# Altium integrated library Actel ProASIC3E.IntLib: 182 symbols (part 41 of 46)
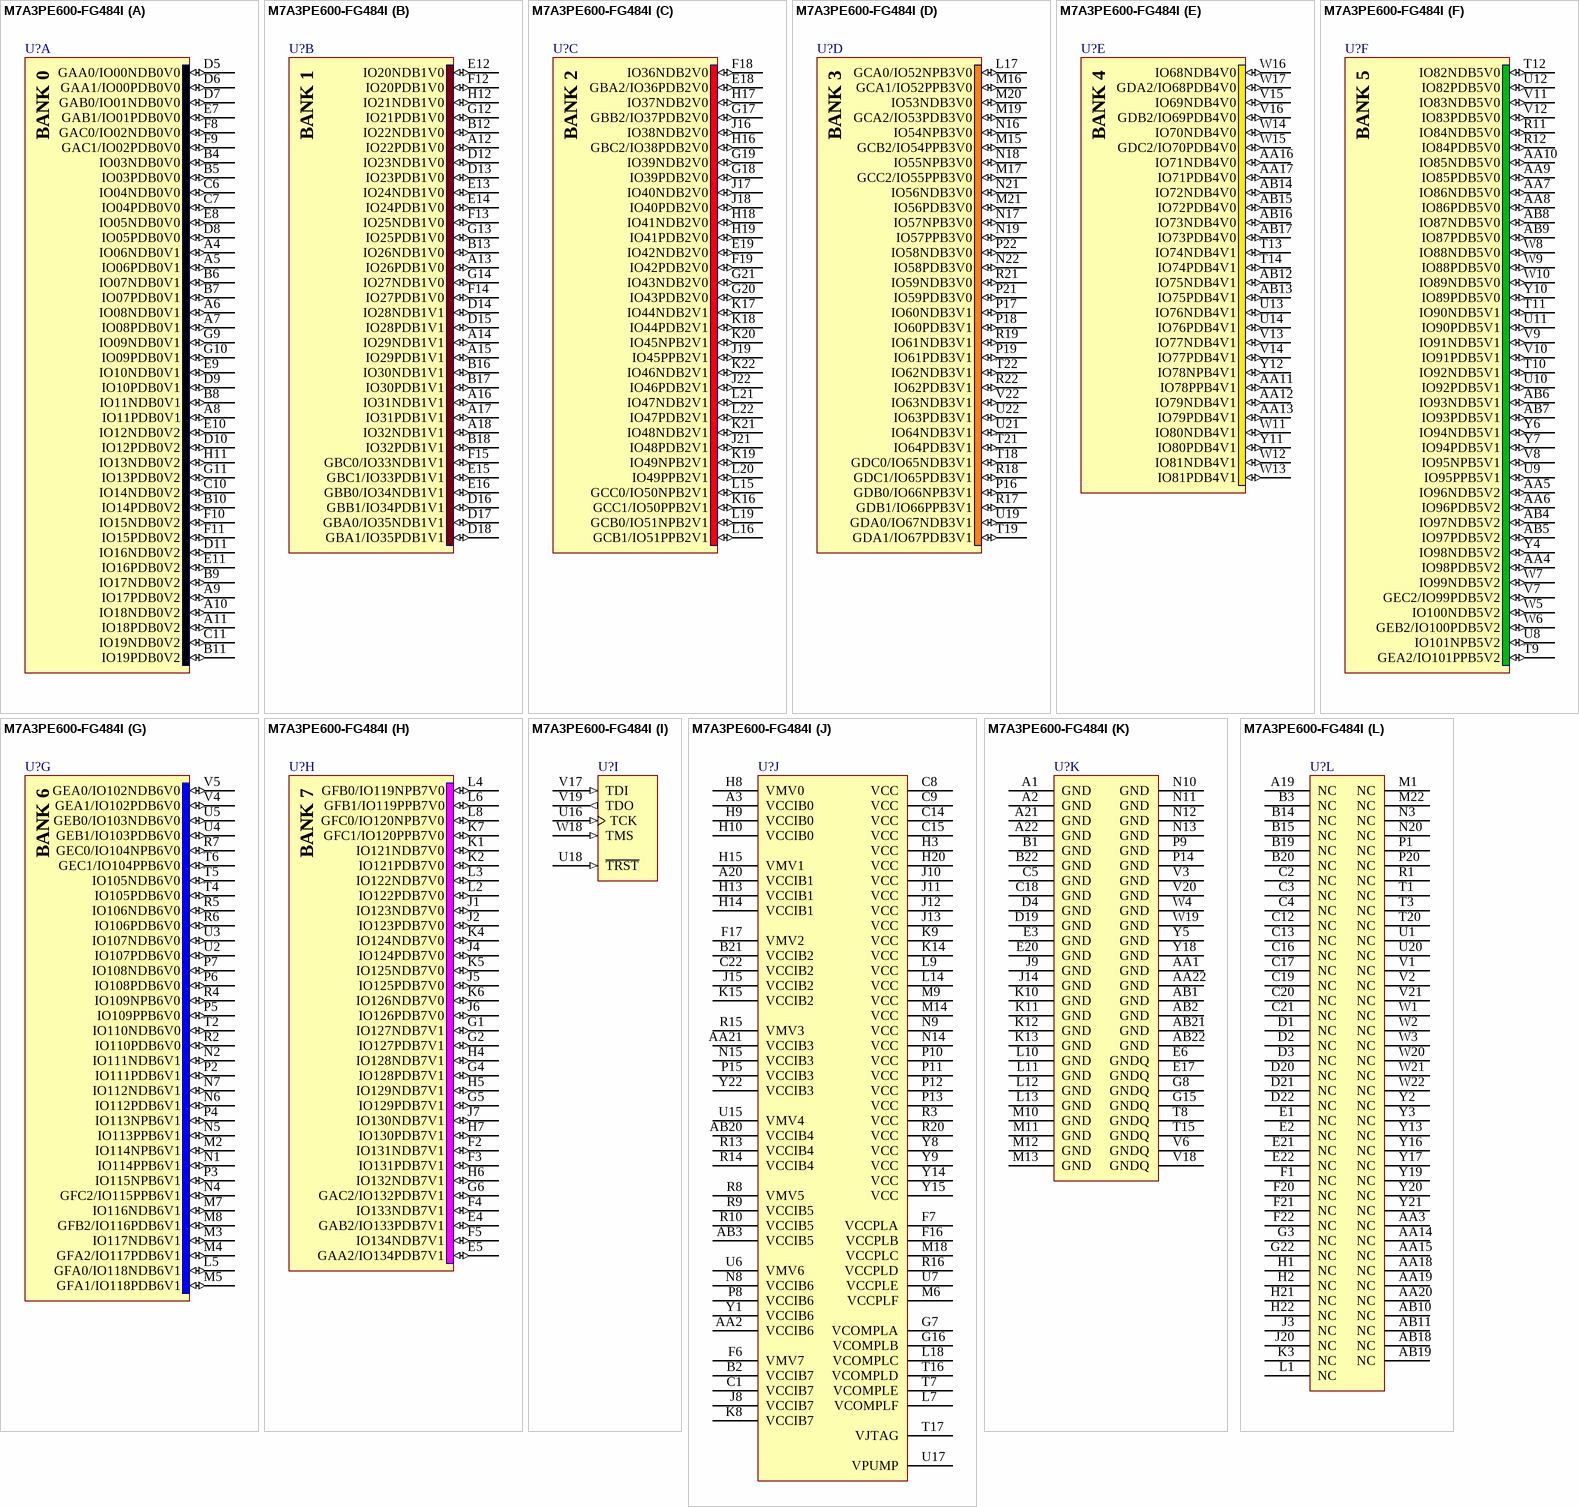
[diagram p243: symbol M7A3PE600-FG484I]

## M7A3PE600-FG484I
designator U?
M7-Ready ProASIC3E Flash Family FPGA, 270 User IOs, 600K System Gates, 108 Kbits RAM, 1 Kbit FlashROM, 6 PLLs, 484-Ball FBGA, Industrial Grade; Published: 16-Dec-2005; LatestRevisionDate: 26-Sep-2008; LatestRevisionNote: Pinout changed to match April-08 datasheet.; DatasheetVersion: ver1.1, Feb-2009; PackageVersion: v11.0, Feb-2009; PackageReference: FG484; Publisher: Altium Limited; PackageDescription: 484-Ball Fine Pitch Plastic Ball Grid Array (FG484) - Fully Populated; Code_JEDEC: MS-034-AAJ-1; Code_IPC: BGA100P22X22-484; ComponentLink1Description: Manufacturer Link; ComponentLink1URL: http://www.actel.com/products/pa3/; ComponentLink2Description: Datasheet; ComponentLink2URL: http://www.actel.com/documents/PA3E_DS.pdf; ComponentLink3Description: Packaging Specification; ComponentLink3URL: http://www.actel.com/documents/PckgMechDrwngs.pdf
footprint FG484 (BGA, 484-Leads, Body 23x23mm, Pitch 1mm)
3D model M7A3PE600-FG484 (484-Ball Fine Pitch Plastic Ball Grid Array (FG484) - Fully Populated)
signal-integrity model A3PE600_FG484 (ProASIC3E)
part A pins: A4 IO06NDB0V1 (io), A5 IO06PDB0V1 (io), A6 IO08NDB0V1 (io), A7 IO08PDB0V1 (io), A8 IO11PDB0V1 (io), A9 IO17PDB0V2 (io), A10 IO18NDB0V2 (io), A11 IO18PDB0V2 (io), B4 IO03NDB0V0 (io), B5 IO03PDB0V0 (io), B6 IO07NDB0V1 (io), B7 IO07PDB0V1 (io), B8 IO11NDB0V1 (io), B9 IO17NDB0V2 (io), B10 IO14PDB0V2 (io), B11 IO19PDB0V2 (io), C6 IO04NDB0V0 (io), C7 IO04PDB0V0 (io), C10 IO14NDB0V2 (io), C11 IO19NDB0V2 (io), D5 GAA0/IO00NDB0V0 (io), D6 GAA1/IO00PDB0V0 (io), D7 GAB0/IO01NDB0V0 (io), D8 IO05PDB0V0 (io), D9 IO10PDB0V1 (io), D10 IO12PDB0V2 (io), D11 IO16NDB0V2 (io), E7 GAB1/IO01PDB0V0 (io), E8 IO05NDB0V0 (io), E9 IO10NDB0V1 (io), E10 IO12NDB0V2 (io), E11 IO16PDB0V2 (io), F8 GAC0/IO02NDB0V0 (io), F9 GAC1/IO02PDB0V0 (io), F10 IO15NDB0V2 (io), F11 IO15PDB0V2 (io), G9 IO09NDB0V1 (io), G10 IO09PDB0V1 (io), G11 IO13PDB0V2 (io), H11 IO13NDB0V2 (io)
part B pins: A12 IO22PDB1V0 (io), A13 IO26PDB1V0 (io), A14 IO29NDB1V1 (io), A15 IO29PDB1V1 (io), A16 IO31NDB1V1 (io), A17 IO31PDB1V1 (io), A18 IO32NDB1V1 (io), B12 IO22NDB1V0 (io), B13 IO26NDB1V0 (io), B16 IO30NDB1V1 (io), B17 IO30PDB1V1 (io), B18 IO32PDB1V1 (io), D12 IO23NDB1V0 (io), D13 IO23PDB1V0 (io), D14 IO28NDB1V1 (io), D15 IO28PDB1V1 (io), D16 GBB1/IO34PDB1V1 (io), D17 GBA0/IO35NDB1V1 (io), D18 GBA1/IO35PDB1V1 (io), E12 IO20NDB1V0 (io), E13 IO24NDB1V0 (io), E14 IO24PDB1V0 (io), E15 GBC1/IO33PDB1V1 (io), E16 GBB0/IO34NDB1V1 (io), F12 IO20PDB1V0 (io), F13 IO25NDB1V0 (io), F14 IO27PDB1V0 (io), F15 GBC0/IO33NDB1V1 (io), G12 IO21PDB1V0 (io), G13 IO25PDB1V0 (io), G14 IO27NDB1V0 (io), H12 IO21NDB1V0 (io)
part C pins: E18 GBA2/IO36PDB2V0 (io), E19 IO42NDB2V0 (io), F18 IO36NDB2V0 (io), F19 IO42PDB2V0 (io), G17 GBB2/IO37PDB2V0 (io), G18 IO39PDB2V0 (io), G19 IO39NDB2V0 (io), G20 IO43PDB2V0 (io), G21 IO43NDB2V0 (io), H16 GBC2/IO38PDB2V0 (io), H17 IO37NDB2V0 (io), H18 IO41NDB2V0 (io), H19 IO41PDB2V0 (io), J16 IO38NDB2V0 (io), J17 IO40NDB2V0 (io), J18 IO40PDB2V0 (io), J19 IO45PPB2V1 (io), J21 IO48PDB2V1 (io), J22 IO46PDB2V1 (io), K16 GCC1/IO50PPB2V1 (io), K17 IO44NDB2V1 (io), K18 IO44PDB2V1 (io), K19 IO49NPB2V1 (io), K20 IO45NPB2V1 (io), K21 IO48NDB2V1 (io), K22 IO46NDB2V1 (io), L15 GCC0/IO50NPB2V1 (io), L16 GCB1/IO51PPB2V1 (io), L19 GCB0/IO51NPB2V1 (io), L20 IO49PPB2V1 (io), L21 IO47NDB2V1 (io), L22 IO47PDB2V1 (io)
part D pins: L17 GCA0/IO52NPB3V0 (io), M15 GCB2/IO54PPB3V0 (io), M16 GCA1/IO52PPB3V0 (io), M17 GCC2/IO55PPB3V0 (io), M19 GCA2/IO53PDB3V0 (io), M20 IO53NDB3V0 (io), M21 IO56PDB3V0 (io), N16 IO54NPB3V0 (io), N17 IO57NPB3V0 (io), N18 IO55NPB3V0 (io), N19 IO57PPB3V0 (io), N21 IO56NDB3V0 (io), N22 IO58PDB3V0 (io), P16 GDB0/IO66NPB3V1 (io), P17 IO60NDB3V1 (io), P18 IO60PDB3V1 (io), P19 IO61PDB3V1 (io), P21 IO59PDB3V0 (io), P22 IO58NDB3V0 (io), R17 GDB1/IO66PPB3V1 (io), R18 GDC1/IO65PDB3V1 (io), R19 IO61NDB3V1 (io), R21 IO59NDB3V0 (io), R22 IO62PDB3V1 (io), T18 GDC0/IO65NDB3V1 (io), T19 GDA1/IO67PDB3V1 (io), T21 IO64PDB3V1 (io), T22 IO62NDB3V1 (io), U19 GDA0/IO67NDB3V1 (io), U21 IO64NDB3V1 (io), U22 IO63PDB3V1 (io), V22 IO63NDB3V1 (io)
part E pins: AA11 IO78PPB4V1 (io), AA12 IO79NDB4V1 (io), AA13 IO79PDB4V1 (io), AA16 IO71NDB4V0 (io), AA17 IO71PDB4V0 (io), AB12 IO75NDB4V1 (io), AB13 IO75PDB4V1 (io), AB14 IO72NDB4V0 (io), AB15 IO72PDB4V0 (io), AB16 IO73NDB4V0 (io), AB17 IO73PDB4V0 (io), T13 IO74NDB4V1 (io), T14 IO74PDB4V1 (io), U13 IO76NDB4V1 (io), U14 IO76PDB4V1 (io), V13 IO77NDB4V1 (io), V14 IO77PDB4V1 (io), V15 IO69NDB4V0 (io), V16 GDB2/IO69PDB4V0 (io), W11 IO80NDB4V1 (io), W12 IO81NDB4V1 (io), W13 IO81PDB4V1 (io), W14 IO70NDB4V0 (io), W15 GDC2/IO70PDB4V0 (io), W16 IO68NDB4V0 (io), W17 GDA2/IO68PDB4V0 (io), Y11 IO80PDB4V1 (io), Y12 IO78NPB4V1 (io)
part F pins: AA4 IO98PDB5V2 (io), AA5 IO96NDB5V2 (io), AA6 IO96PDB5V2 (io), AA7 IO86NDB5V0 (io), AA8 IO86PDB5V0 (io), AA9 IO85PDB5V0 (io), AA10 IO85NDB5V0 (io), AB4 IO97NDB5V2 (io), AB5 IO97PDB5V2 (io), AB6 IO93NDB5V1 (io), AB7 IO93PDB5V1 (io), AB8 IO87NDB5V0 (io), AB9 IO87PDB5V0 (io), R11 IO84NDB5V0 (io), R12 IO84PDB5V0 (io), T9 GEA2/IO101PPB5V2 (io), T10 IO92NDB5V1 (io), T11 IO90NDB5V1 (io), T12 IO82NDB5V0 (io), U8 IO101NPB5V2 (io), U9 IO95PPB5V1 (io), U10 IO92PDB5V1 (io), U11 IO90PDB5V1 (io), U12 IO82PDB5V0 (io), V7 GEC2/IO99PDB5V2 (io), V8 IO95NPB5V1 (io), V9 IO91NDB5V1 (io), V10 IO91PDB5V1 (io), V11 IO83NDB5V0 (io), V12 IO83PDB5V0 (io), W5 IO100NDB5V2 (io), W6 GEB2/IO100PDB5V2 (io), W7 IO99NDB5V2 (io), W8 IO88NDB5V0 (io), W9 IO88PDB5V0 (io), W10 IO89NDB5V0 (io), Y4 IO98NDB5V2 (io), Y6 IO94NDB5V1 (io), Y7 IO94PDB5V1 (io), Y10 IO89PDB5V0 (io)
part G pins: L5 GFA0/IO118NDB6V1 (io), M2 IO114NPB6V1 (io), M3 IO117NDB6V1 (io), M4 GFA2/IO117PDB6V1 (io), M5 GFA1/IO118PDB6V1 (io), M7 IO116NDB6V1 (io), M8 GFB2/IO116PDB6V1 (io), N1 IO114PPB6V1 (io), N2 IO111NDB6V1 (io), N4 GFC2/IO115PPB6V1 (io), N5 IO113PPB6V1 (io), N6 IO112PDB6V1 (io), N7 IO112NDB6V1 (io), P2 IO111PDB6V1 (io), P3 IO115NPB6V1 (io), P4 IO113NPB6V1 (io), P5 IO109PPB6V0 (io), P6 IO108PDB6V0 (io), P7 IO108NDB6V0 (io), R2 IO110PDB6V0 (io), R4 IO109NPB6V0 (io), R5 IO106NDB6V0 (io), R6 IO106PDB6V0 (io), R7 GEC0/IO104NPB6V0 (io), T2 IO110NDB6V0 (io), T4 IO105PDB6V0 (io), T5 IO105NDB6V0 (io), T6 GEC1/IO104PPB6V0 (io), U2 IO107PDB6V0 (io), U3 IO107NDB6V0 (io), U4 GEB1/IO103PDB6V0 (io), U5 GEB0/IO103NDB6V0 (io), V4 GEA1/IO102PDB6V0 (io), V5 GEA0/IO102NDB6V0 (io)
part H pins: E4 GAB2/IO133PDB7V1 (io), E5 GAA2/IO134PDB7V1 (io), F2 IO131NDB7V1 (io), F3 IO131PDB7V1 (io), F4 IO133NDB7V1 (io), F5 IO134NDB7V1 (io), G1 IO127NDB7V1 (io), G2 IO127PDB7V1 (io), G4 IO128PDB7V1 (io), G5 IO129PDB7V1 (io), G6 GAC2/IO132PDB7V1 (io), H4 IO128NDB7V1 (io), H5 IO129NDB7V1 (io), H6 IO132NDB7V1 (io), H7 IO130PDB7V1 (io), J1 IO123NDB7V0 (io), J2 IO123PDB7V0 (io), J4 IO124PDB7V0 (io), J5 IO125PDB7V0 (io), J6 IO126PDB7V0 (io), J7 IO130NDB7V1 (io), K1 IO121NDB7V0 (io), K2 IO121PDB7V0 (io), K4 IO124NDB7V0 (io), K5 IO125NDB7V0 (io), K6 IO126NDB7V0 (io), K7 GFC1/IO120PPB7V0 (io), L2 IO122PDB7V0 (io), L3 IO122NDB7V0 (io), L4 GFB0/IO119NPB7V0 (io), L6 GFB1/IO119PPB7V0 (io), L8 GFC0/IO120NPB7V0 (io)
part I pins: U16 TCK (in), U18 ~{TRST} (in), V17 TDI (in), V19 TDO (out), W18 TMS (in)
part J pins: A3 VCCIB0 (power), A20 VCCIB1 (power), AA2 VCCIB6 (power), AA21 VCCIB3 (power), AB3 VCCIB5 (power), AB20 VCCIB4 (power), B2 VCCIB7 (power), B21 VCCIB2 (power), C1 VCCIB7 (power), C8 VCC (power), C9 VCC (power), C14 VCC (power), C15 VCC (power), C22 VCCIB2 (power), F6 VMV7 (power), F7 VCCPLA (power), F16 VCCPLB (power), F17 VMV2 (power), G7 VCOMPLA (power), G16 VCOMPLB (power), H3 VCC (power), H8 VMV0 (power), H9 VCCIB0 (power), H10 VCCIB0 (power), H13 VCCIB1 (power), H14 VCCIB1 (power), H15 VMV1 (power), H20 VCC (power), J8 VCCIB7 (power), J10 VCC (power), J11 VCC (power), J12 VCC (power), J13 VCC (power), J15 VCCIB2 (power), K8 VCCIB7 (power), K9 VCC (power), K14 VCC (power), K15 VCCIB2 (power), L7 VCOMPLF (power), L9 VCC (power), L14 VCC (power), L18 VCOMPLC (power), M6 VCCPLF (power), M9 VCC (power), M14 VCC (power), M18 VCCPLC (power), N8 VCCIB6 (power), N9 VCC (power), N14 VCC (power), N15 VCCIB3 (power), P8 VCCIB6 (power), P10 VCC (power), P11 VCC (power), P12 VCC (power), P13 VCC (power), P15 VCCIB3 (power), R3 VCC (power), R8 VMV5 (power), R9 VCCIB5 (power), R10 VCCIB5 (power), R13 VCCIB4 (power), R14 VCCIB4 (power), R15 VMV3 (power), R16 VCCPLD (power), R20 VCC (power), T7 VCOMPLE (power), T16 VCOMPLD (power), T17 VJTAG (power), U6 VMV6 (power), U7 VCCPLE (power), U15 VMV4 (power), U17 VPUMP (power), Y1 VCCIB6 (power), Y8 VCC (power), Y9 VCC (power), Y14 VCC (power), Y15 VCC (power), Y22 VCCIB3 (power)
part K pins: A1 GND (power), A2 GND (power), A21 GND (power), A22 GND (power), AA1 GND (power), AA22 GND (power), AB1 GND (power), AB2 GND (power), AB21 GND (power), AB22 GND (power), B1 GND (power), B22 GND (power), C5 GND (power), C18 GND (power), D4 GND (power), D19 GND (power), E3 GND (power), E6 GNDQ (power), E17 GNDQ (power), E20 GND (power), G8 GNDQ (power), G15 GNDQ (power), J9 GND (power), J14 GND (power), K10 GND (power), K11 GND (power), K12 GND (power), K13 GND (power), L10 GND (power), L11 GND (power), L12 GND (power), L13 GND (power), M10 GND (power), M11 GND (power), M12 GND (power), M13 GND (power), N10 GND (power), N11 GND (power), N12 GND (power), N13 GND (power), P9 GND (power), P14 GND (power), T8 GNDQ (power), T15 GNDQ (power), V3 GND (power), V6 GNDQ (power), V18 GNDQ (power), V20 GND (power), W4 GND (power), W19 GND (power), Y5 GND (power), Y18 GND (power)
part L pins: A19 NC, AA3 NC, AA14 NC, AA15 NC, AA18 NC, AA19 NC, AA20 NC, AB10 NC, AB11 NC, AB18 NC, AB19 NC, B3 NC, B14 NC, B15 NC, B19 NC, B20 NC, C2 NC, C3 NC, C4 NC, C12 NC, C13 NC, C16 NC, C17 NC, C19 NC, C20 NC, C21 NC, D1 NC, D2 NC, D3 NC, D20 NC, D21 NC, D22 NC, E1 NC, E2 NC, E21 NC, E22 NC, F1 NC, F20 NC, F21 NC, F22 NC, G3 NC, G22 NC, H1 NC, H2 NC, H21 NC, H22 NC, J3 NC, J20 NC, K3 NC, L1 NC, M1 NC, M22 NC, N3 NC, N20 NC, P1 NC, P20 NC, R1 NC, T1 NC, T3 NC, T20 NC, U1 NC, U20 NC, V1 NC, V2 NC, V21 NC, W1 NC, W2 NC, W3 NC, W20 NC, W21 NC, W22 NC, Y2 NC, Y3 NC, Y13 NC, Y16 NC, Y17 NC, Y19 NC, Y20 NC, Y21 NC
part A text: BANK 0
part B text: BANK 1
part C text: BANK 2
part D text: BANK 3
part E text: BANK 4
part F text: BANK 5
part G text: BANK 6
part H text: BANK 7

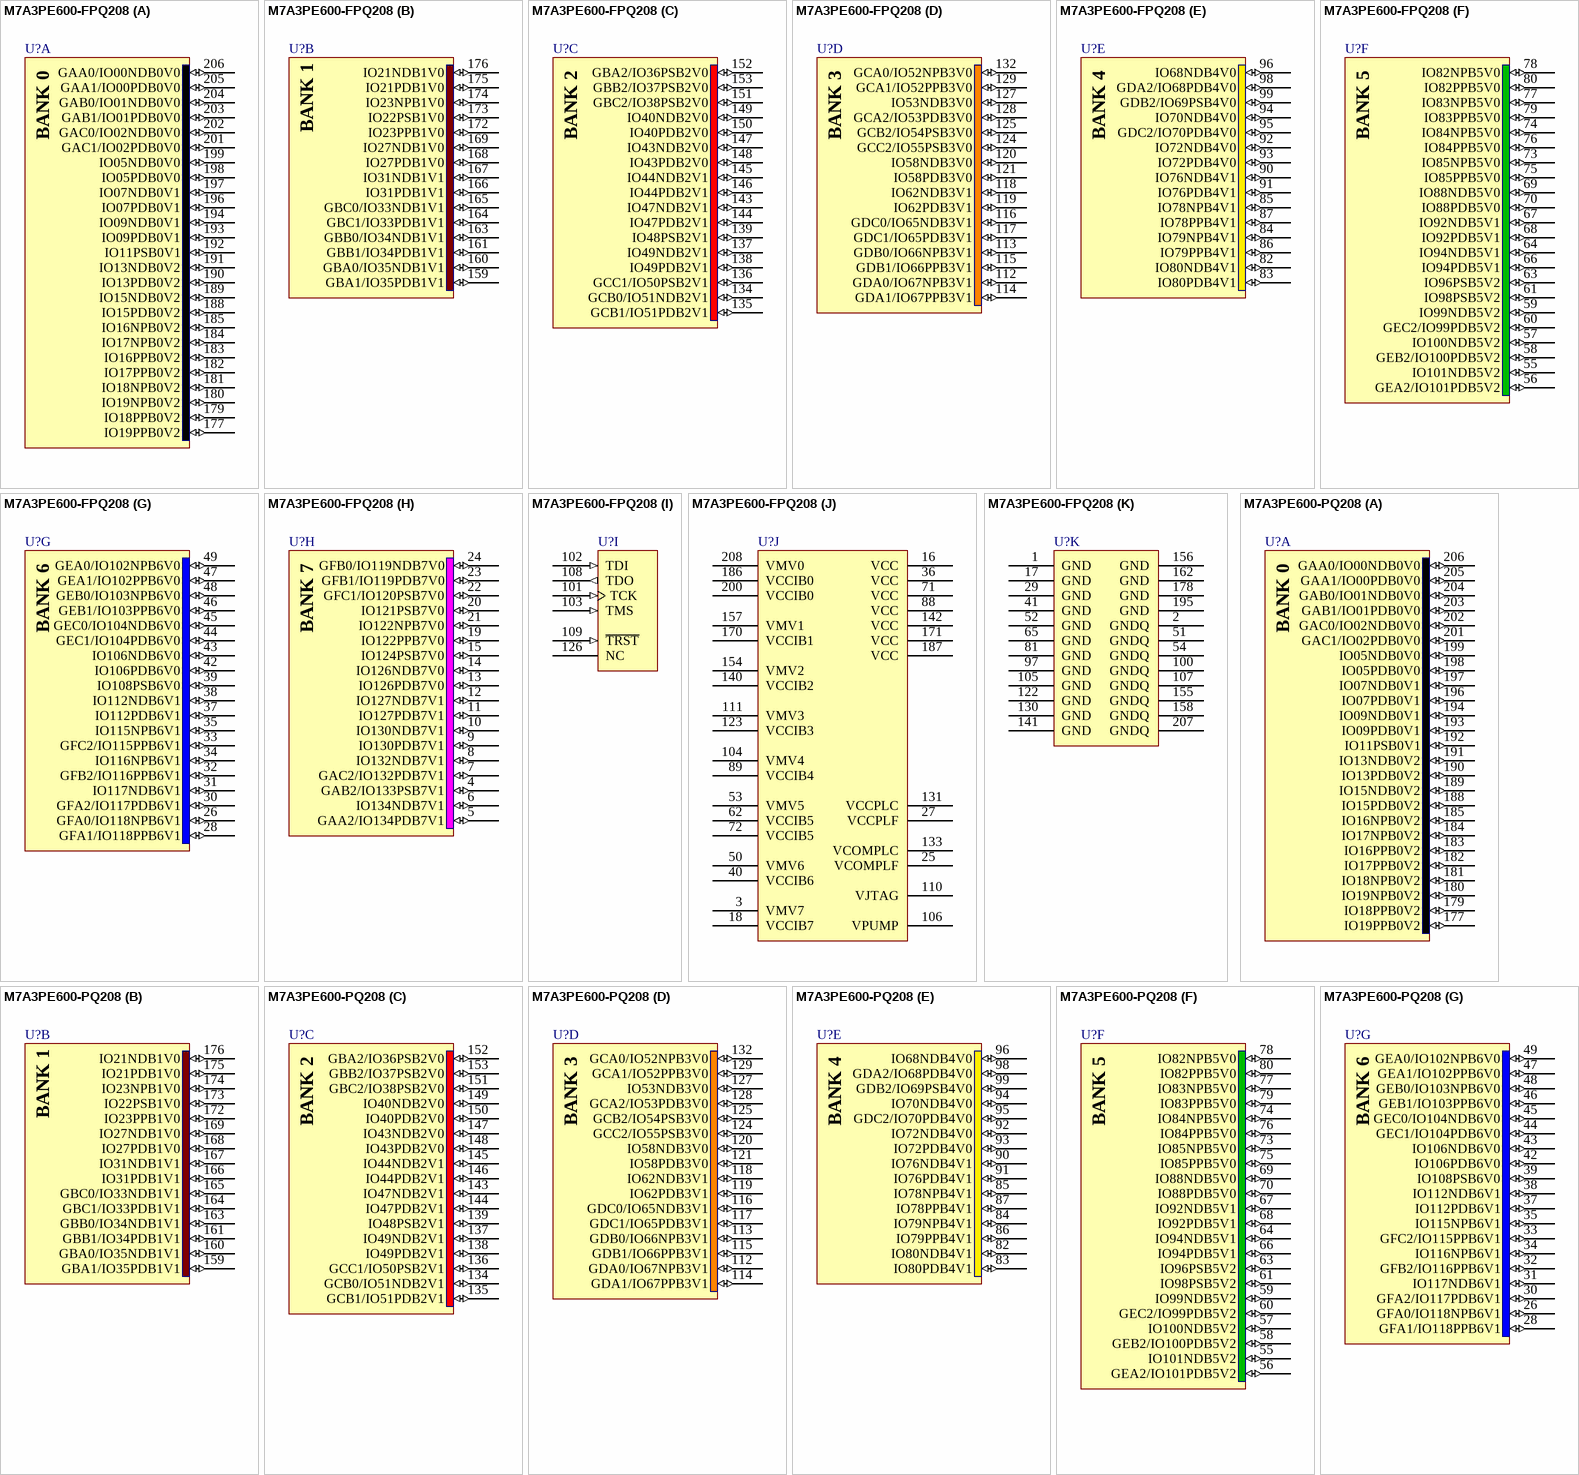
[diagram p157: symbols M7A3PE600-FPQ208 to M7A3PE600-PQ208]

## M7A3PE600-FPQ208
designator U?
M7-Ready ProASIC3E Flash Family FPGA, 147 User IOs, 600K System Gates, 108 Kbits RAM, 1 Kbit FlashROM, 2 PLLs, 208-Pin PQFP, Commercial Grade; Published: 16-Dec-2005; LatestRevisionDate: 08-Sep-2006; LatestRevisionNote: 3D bitmap corrected.; DatasheetVersion: ver1.1, Feb-2009; PackageVersion: v11.0, Feb-2009; PackageReference: PQ208; Publisher: Altium Limited; PackageDescription: 208-Pin Plastic Quad Flat Pack (PQ208); Code_JEDEC: MS-029-FA-1; ComponentLink1Description: Manufacturer Link; ComponentLink1URL: http://www.actel.com/products/pa3/; ComponentLink2Description: Datasheet; ComponentLink2URL: http://www.actel.com/documents/PA3E_DS.pdf; ComponentLink3Description: Packaging Specification; ComponentLink3URL: http://www.actel.com/documents/PckgMechDrwngs.pdf
footprint PQ208_N (Shrink QFP, 208-Leads, Body 28x28mm, Pitch 0.5mm, IPC Medium Density)
footprint PQ208_L (Shrink QFP, 208-Leads, Body 28x28mm, Pitch 0.5mm, IPC High Density)
footprint PQ208_M (Shrink QFP, 208-Leads, Body 28x28mm, Pitch 0.5mm, IPC Low Density)
3D model M7A3PE600-PQ208 (208-Pin Plastic Quad Flat Pack (PQ208))
signal-integrity model A3PE600_PQ208 (ProASIC3E)
part A pins: 177 IO19PPB0V2 (io), 179 IO18PPB0V2 (io), 180 IO19NPB0V2 (io), 181 IO18NPB0V2 (io), 182 IO17PPB0V2 (io), 183 IO16PPB0V2 (io), 184 IO17NPB0V2 (io), 185 IO16NPB0V2 (io), 188 IO15PDB0V2 (io), 189 IO15NDB0V2 (io), 190 IO13PDB0V2 (io), 191 IO13NDB0V2 (io), 192 IO11PSB0V1 (io), 193 IO09PDB0V1 (io), 194 IO09NDB0V1 (io), 196 IO07PDB0V1 (io), 197 IO07NDB0V1 (io), 198 IO05PDB0V0 (io), 199 IO05NDB0V0 (io), 201 GAC1/IO02PDB0V0 (io), 202 GAC0/IO02NDB0V0 (io), 203 GAB1/IO01PDB0V0 (io), 204 GAB0/IO01NDB0V0 (io), 205 GAA1/IO00PDB0V0 (io), 206 GAA0/IO00NDB0V0 (io)
part B pins: 159 GBA1/IO35PDB1V1 (io), 160 GBA0/IO35NDB1V1 (io), 161 GBB1/IO34PDB1V1 (io), 163 GBB0/IO34NDB1V1 (io), 164 GBC1/IO33PDB1V1 (io), 165 GBC0/IO33NDB1V1 (io), 166 IO31PDB1V1 (io), 167 IO31NDB1V1 (io), 168 IO27PDB1V0 (io), 169 IO27NDB1V0 (io), 172 IO23PPB1V0 (io), 173 IO22PSB1V0 (io), 174 IO23NPB1V0 (io), 175 IO21PDB1V0 (io), 176 IO21NDB1V0 (io)
part C pins: 134 GCB0/IO51NDB2V1 (io), 135 GCB1/IO51PDB2V1 (io), 136 GCC1/IO50PSB2V1 (io), 137 IO49NDB2V1 (io), 138 IO49PDB2V1 (io), 139 IO48PSB2V1 (io), 143 IO47NDB2V1 (io), 144 IO47PDB2V1 (io), 145 IO44NDB2V1 (io), 146 IO44PDB2V1 (io), 147 IO43NDB2V0 (io), 148 IO43PDB2V0 (io), 149 IO40NDB2V0 (io), 150 IO40PDB2V0 (io), 151 GBC2/IO38PSB2V0 (io), 152 GBA2/IO36PSB2V0 (io), 153 GBB2/IO37PSB2V0 (io)
part D pins: 112 GDA0/IO67NPB3V1 (io), 113 GDB0/IO66NPB3V1 (io), 114 GDA1/IO67PPB3V1 (io), 115 GDB1/IO66PPB3V1 (io), 116 GDC0/IO65NDB3V1 (io), 117 GDC1/IO65PDB3V1 (io), 118 IO62NDB3V1 (io), 119 IO62PDB3V1 (io), 120 IO58NDB3V0 (io), 121 IO58PDB3V0 (io), 124 GCC2/IO55PSB3V0 (io), 125 GCB2/IO54PSB3V0 (io), 127 IO53NDB3V0 (io), 128 GCA2/IO53PDB3V0 (io), 129 GCA1/IO52PPB3V0 (io), 132 GCA0/IO52NPB3V0 (io)
part E pins: 82 IO80NDB4V1 (io), 83 IO80PDB4V1 (io), 84 IO79NPB4V1 (io), 85 IO78NPB4V1 (io), 86 IO79PPB4V1 (io), 87 IO78PPB4V1 (io), 90 IO76NDB4V1 (io), 91 IO76PDB4V1 (io), 92 IO72NDB4V0 (io), 93 IO72PDB4V0 (io), 94 IO70NDB4V0 (io), 95 GDC2/IO70PDB4V0 (io), 96 IO68NDB4V0 (io), 98 GDA2/IO68PDB4V0 (io), 99 GDB2/IO69PSB4V0 (io)
part F pins: 55 IO101NDB5V2 (io), 56 GEA2/IO101PDB5V2 (io), 57 IO100NDB5V2 (io), 58 GEB2/IO100PDB5V2 (io), 59 IO99NDB5V2 (io), 60 GEC2/IO99PDB5V2 (io), 61 IO98PSB5V2 (io), 63 IO96PSB5V2 (io), 64 IO94NDB5V1 (io), 66 IO94PDB5V1 (io), 67 IO92NDB5V1 (io), 68 IO92PDB5V1 (io), 69 IO88NDB5V0 (io), 70 IO88PDB5V0 (io), 73 IO85NPB5V0 (io), 74 IO84NPB5V0 (io), 75 IO85PPB5V0 (io), 76 IO84PPB5V0 (io), 77 IO83NPB5V0 (io), 78 IO82NPB5V0 (io), 79 IO83PPB5V0 (io), 80 IO82PPB5V0 (io)
part G pins: 26 GFA0/IO118NPB6V1 (io), 28 GFA1/IO118PPB6V1 (io), 30 GFA2/IO117PDB6V1 (io), 31 IO117NDB6V1 (io), 32 GFB2/IO116PPB6V1 (io), 33 GFC2/IO115PPB6V1 (io), 34 IO116NPB6V1 (io), 35 IO115NPB6V1 (io), 37 IO112PDB6V1 (io), 38 IO112NDB6V1 (io), 39 IO108PSB6V0 (io), 42 IO106PDB6V0 (io), 43 IO106NDB6V0 (io), 44 GEC1/IO104PDB6V0 (io), 45 GEC0/IO104NDB6V0 (io), 46 GEB1/IO103PPB6V0 (io), 47 GEA1/IO102PPB6V0 (io), 48 GEB0/IO103NPB6V0 (io), 49 GEA0/IO102NPB6V0 (io)
part H pins: 4 GAB2/IO133PSB7V1 (io), 5 GAA2/IO134PDB7V1 (io), 6 IO134NDB7V1 (io), 7 GAC2/IO132PDB7V1 (io), 8 IO132NDB7V1 (io), 9 IO130PDB7V1 (io), 10 IO130NDB7V1 (io), 11 IO127PDB7V1 (io), 12 IO127NDB7V1 (io), 13 IO126PDB7V0 (io), 14 IO126NDB7V0 (io), 15 IO124PSB7V0 (io), 19 IO122PPB7V0 (io), 20 IO121PSB7V0 (io), 21 IO122NPB7V0 (io), 22 GFC1/IO120PSB7V0 (io), 23 GFB1/IO119PDB7V0 (io), 24 GFB0/IO119NDB7V0 (io)
part I pins: 101 TCK (in), 102 TDI (in), 103 TMS (in), 108 TDO (out), 109 ~{TRST} (in), 126 NC
part J pins: 3 VMV7 (power), 16 VCC (power), 18 VCCIB7 (power), 25 VCOMPLF (power), 27 VCCPLF (power), 36 VCC (power), 40 VCCIB6 (power), 50 VMV6 (power), 53 VMV5 (power), 62 VCCIB5 (power), 71 VCC (power), 72 VCCIB5 (power), 88 VCC (power), 89 VCCIB4 (power), 104 VMV4 (power), 106 VPUMP (power), 110 VJTAG (power), 111 VMV3 (power), 123 VCCIB3 (power), 131 VCCPLC (power), 133 VCOMPLC (power), 140 VCCIB2 (power), 142 VCC (power), 154 VMV2 (power), 157 VMV1 (power), 170 VCCIB1 (power), 171 VCC (power), 186 VCCIB0 (power), 187 VCC (power), 200 VCCIB0 (power), 208 VMV0 (power)
part K pins: 1 GND (power), 2 GNDQ (power), 17 GND (power), 29 GND (power), 41 GND (power), 51 GNDQ (power), 52 GND (power), 54 GNDQ (power), 65 GND (power), 81 GND (power), 97 GND (power), 100 GNDQ (power), 105 GND (power), 107 GNDQ (power), 122 GND (power), 130 GND (power), 141 GND (power), 155 GNDQ (power), 156 GND (power), 158 GNDQ (power), 162 GND (power), 178 GND (power), 195 GND (power), 207 GNDQ (power)
part A text: BANK 0
part B text: BANK 1
part C text: BANK 2
part D text: BANK 3
part E text: BANK 4
part F text: BANK 5
part G text: BANK 6
part H text: BANK 7

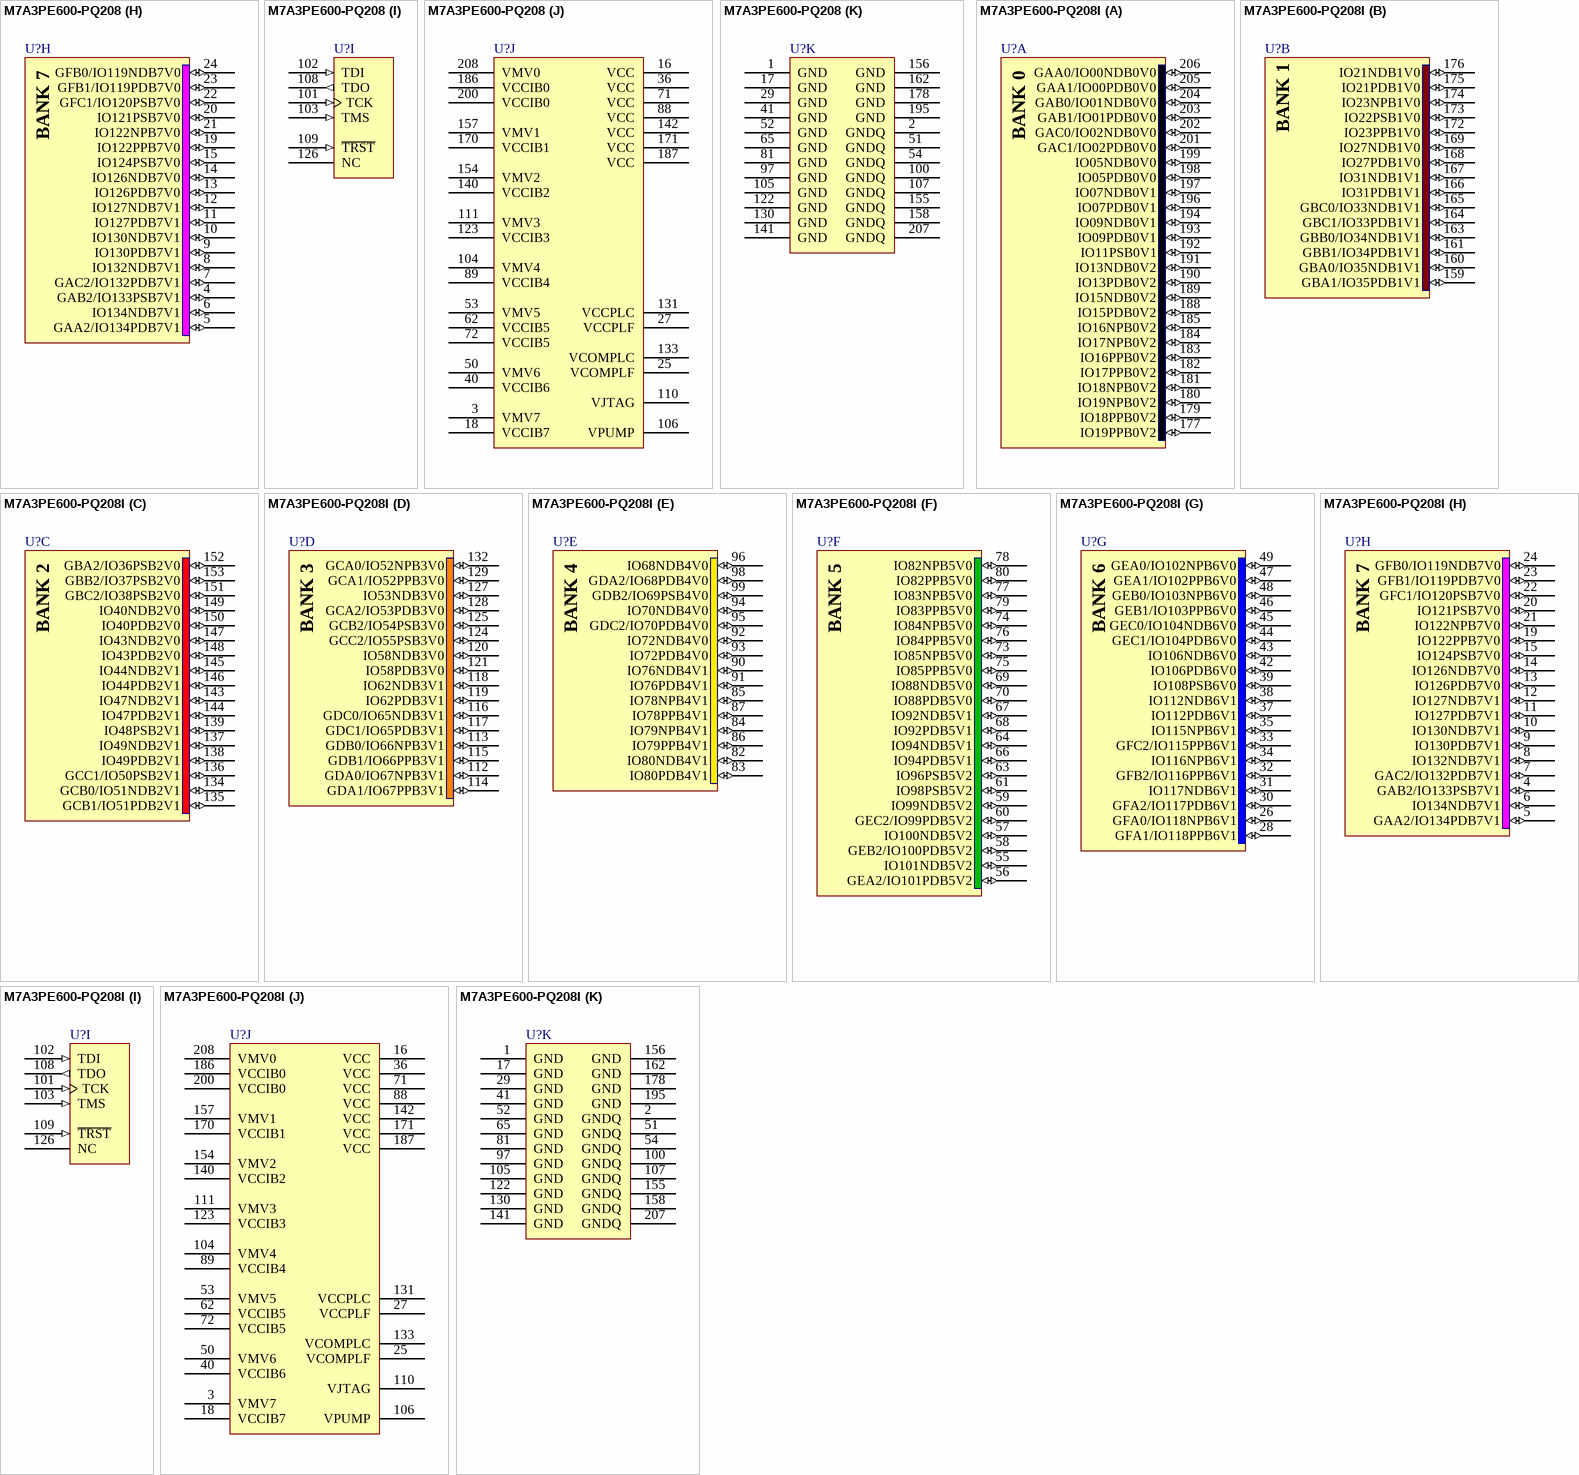
[diagram p158: symbols M7A3PE600-PQ208 to M7A3PE600-PQ208I]

## M7A3PE600-PQ208
designator U?
M7-Ready ProASIC3E Flash Family FPGA, 147 User IOs, 600K System Gates, 108 Kbits RAM, 1 Kbit FlashROM, 2 PLLs, 208-Pin PQFP, Commercial Grade; Published: 16-Dec-2005; LatestRevisionDate: 08-Sep-2006; LatestRevisionNote: 3D bitmap corrected.; DatasheetVersion: ver1.1, Feb-2009; PackageVersion: v11.0, Feb-2009; PackageReference: PQ208; Publisher: Altium Limited; PackageDescription: 208-Pin Plastic Quad Flat Pack (PQ208); Code_JEDEC: MS-029-FA-1; ComponentLink1Description: Manufacturer Link; ComponentLink1URL: http://www.actel.com/products/pa3/; ComponentLink2Description: Datasheet; ComponentLink2URL: http://www.actel.com/documents/PA3E_DS.pdf; ComponentLink3Description: Packaging Specification; ComponentLink3URL: http://www.actel.com/documents/PckgMechDrwngs.pdf
footprint PQ208_N (Shrink QFP, 208-Leads, Body 28x28mm, Pitch 0.5mm, IPC Medium Density)
footprint PQ208_L (Shrink QFP, 208-Leads, Body 28x28mm, Pitch 0.5mm, IPC High Density)
footprint PQ208_M (Shrink QFP, 208-Leads, Body 28x28mm, Pitch 0.5mm, IPC Low Density)
3D model M7A3PE600-PQ208 (208-Pin Plastic Quad Flat Pack (PQ208))
signal-integrity model A3PE600_PQ208 (ProASIC3E)
part A pins: 177 IO19PPB0V2 (io), 179 IO18PPB0V2 (io), 180 IO19NPB0V2 (io), 181 IO18NPB0V2 (io), 182 IO17PPB0V2 (io), 183 IO16PPB0V2 (io), 184 IO17NPB0V2 (io), 185 IO16NPB0V2 (io), 188 IO15PDB0V2 (io), 189 IO15NDB0V2 (io), 190 IO13PDB0V2 (io), 191 IO13NDB0V2 (io), 192 IO11PSB0V1 (io), 193 IO09PDB0V1 (io), 194 IO09NDB0V1 (io), 196 IO07PDB0V1 (io), 197 IO07NDB0V1 (io), 198 IO05PDB0V0 (io), 199 IO05NDB0V0 (io), 201 GAC1/IO02PDB0V0 (io), 202 GAC0/IO02NDB0V0 (io), 203 GAB1/IO01PDB0V0 (io), 204 GAB0/IO01NDB0V0 (io), 205 GAA1/IO00PDB0V0 (io), 206 GAA0/IO00NDB0V0 (io)
part B pins: 159 GBA1/IO35PDB1V1 (io), 160 GBA0/IO35NDB1V1 (io), 161 GBB1/IO34PDB1V1 (io), 163 GBB0/IO34NDB1V1 (io), 164 GBC1/IO33PDB1V1 (io), 165 GBC0/IO33NDB1V1 (io), 166 IO31PDB1V1 (io), 167 IO31NDB1V1 (io), 168 IO27PDB1V0 (io), 169 IO27NDB1V0 (io), 172 IO23PPB1V0 (io), 173 IO22PSB1V0 (io), 174 IO23NPB1V0 (io), 175 IO21PDB1V0 (io), 176 IO21NDB1V0 (io)
part C pins: 134 GCB0/IO51NDB2V1 (io), 135 GCB1/IO51PDB2V1 (io), 136 GCC1/IO50PSB2V1 (io), 137 IO49NDB2V1 (io), 138 IO49PDB2V1 (io), 139 IO48PSB2V1 (io), 143 IO47NDB2V1 (io), 144 IO47PDB2V1 (io), 145 IO44NDB2V1 (io), 146 IO44PDB2V1 (io), 147 IO43NDB2V0 (io), 148 IO43PDB2V0 (io), 149 IO40NDB2V0 (io), 150 IO40PDB2V0 (io), 151 GBC2/IO38PSB2V0 (io), 152 GBA2/IO36PSB2V0 (io), 153 GBB2/IO37PSB2V0 (io)
part D pins: 112 GDA0/IO67NPB3V1 (io), 113 GDB0/IO66NPB3V1 (io), 114 GDA1/IO67PPB3V1 (io), 115 GDB1/IO66PPB3V1 (io), 116 GDC0/IO65NDB3V1 (io), 117 GDC1/IO65PDB3V1 (io), 118 IO62NDB3V1 (io), 119 IO62PDB3V1 (io), 120 IO58NDB3V0 (io), 121 IO58PDB3V0 (io), 124 GCC2/IO55PSB3V0 (io), 125 GCB2/IO54PSB3V0 (io), 127 IO53NDB3V0 (io), 128 GCA2/IO53PDB3V0 (io), 129 GCA1/IO52PPB3V0 (io), 132 GCA0/IO52NPB3V0 (io)
part E pins: 82 IO80NDB4V1 (io), 83 IO80PDB4V1 (io), 84 IO79NPB4V1 (io), 85 IO78NPB4V1 (io), 86 IO79PPB4V1 (io), 87 IO78PPB4V1 (io), 90 IO76NDB4V1 (io), 91 IO76PDB4V1 (io), 92 IO72NDB4V0 (io), 93 IO72PDB4V0 (io), 94 IO70NDB4V0 (io), 95 GDC2/IO70PDB4V0 (io), 96 IO68NDB4V0 (io), 98 GDA2/IO68PDB4V0 (io), 99 GDB2/IO69PSB4V0 (io)
part F pins: 55 IO101NDB5V2 (io), 56 GEA2/IO101PDB5V2 (io), 57 IO100NDB5V2 (io), 58 GEB2/IO100PDB5V2 (io), 59 IO99NDB5V2 (io), 60 GEC2/IO99PDB5V2 (io), 61 IO98PSB5V2 (io), 63 IO96PSB5V2 (io), 64 IO94NDB5V1 (io), 66 IO94PDB5V1 (io), 67 IO92NDB5V1 (io), 68 IO92PDB5V1 (io), 69 IO88NDB5V0 (io), 70 IO88PDB5V0 (io), 73 IO85NPB5V0 (io), 74 IO84NPB5V0 (io), 75 IO85PPB5V0 (io), 76 IO84PPB5V0 (io), 77 IO83NPB5V0 (io), 78 IO82NPB5V0 (io), 79 IO83PPB5V0 (io), 80 IO82PPB5V0 (io)
part G pins: 26 GFA0/IO118NPB6V1 (io), 28 GFA1/IO118PPB6V1 (io), 30 GFA2/IO117PDB6V1 (io), 31 IO117NDB6V1 (io), 32 GFB2/IO116PPB6V1 (io), 33 GFC2/IO115PPB6V1 (io), 34 IO116NPB6V1 (io), 35 IO115NPB6V1 (io), 37 IO112PDB6V1 (io), 38 IO112NDB6V1 (io), 39 IO108PSB6V0 (io), 42 IO106PDB6V0 (io), 43 IO106NDB6V0 (io), 44 GEC1/IO104PDB6V0 (io), 45 GEC0/IO104NDB6V0 (io), 46 GEB1/IO103PPB6V0 (io), 47 GEA1/IO102PPB6V0 (io), 48 GEB0/IO103NPB6V0 (io), 49 GEA0/IO102NPB6V0 (io)
part H pins: 4 GAB2/IO133PSB7V1 (io), 5 GAA2/IO134PDB7V1 (io), 6 IO134NDB7V1 (io), 7 GAC2/IO132PDB7V1 (io), 8 IO132NDB7V1 (io), 9 IO130PDB7V1 (io), 10 IO130NDB7V1 (io), 11 IO127PDB7V1 (io), 12 IO127NDB7V1 (io), 13 IO126PDB7V0 (io), 14 IO126NDB7V0 (io), 15 IO124PSB7V0 (io), 19 IO122PPB7V0 (io), 20 IO121PSB7V0 (io), 21 IO122NPB7V0 (io), 22 GFC1/IO120PSB7V0 (io), 23 GFB1/IO119PDB7V0 (io), 24 GFB0/IO119NDB7V0 (io)
part I pins: 101 TCK (in), 102 TDI (in), 103 TMS (in), 108 TDO (out), 109 ~{TRST} (in), 126 NC
part J pins: 3 VMV7 (power), 16 VCC (power), 18 VCCIB7 (power), 25 VCOMPLF (power), 27 VCCPLF (power), 36 VCC (power), 40 VCCIB6 (power), 50 VMV6 (power), 53 VMV5 (power), 62 VCCIB5 (power), 71 VCC (power), 72 VCCIB5 (power), 88 VCC (power), 89 VCCIB4 (power), 104 VMV4 (power), 106 VPUMP (power), 110 VJTAG (power), 111 VMV3 (power), 123 VCCIB3 (power), 131 VCCPLC (power), 133 VCOMPLC (power), 140 VCCIB2 (power), 142 VCC (power), 154 VMV2 (power), 157 VMV1 (power), 170 VCCIB1 (power), 171 VCC (power), 186 VCCIB0 (power), 187 VCC (power), 200 VCCIB0 (power), 208 VMV0 (power)
part K pins: 1 GND (power), 2 GNDQ (power), 17 GND (power), 29 GND (power), 41 GND (power), 51 GNDQ (power), 52 GND (power), 54 GNDQ (power), 65 GND (power), 81 GND (power), 97 GND (power), 100 GNDQ (power), 105 GND (power), 107 GNDQ (power), 122 GND (power), 130 GND (power), 141 GND (power), 155 GNDQ (power), 156 GND (power), 158 GNDQ (power), 162 GND (power), 178 GND (power), 195 GND (power), 207 GNDQ (power)
part A text: BANK 0
part B text: BANK 1
part C text: BANK 2
part D text: BANK 3
part E text: BANK 4
part F text: BANK 5
part G text: BANK 6
part H text: BANK 7

## M7A3PE600-PQ208I
designator U?
M7-Ready ProASIC3E Flash Family FPGA, 147 User IOs, 600K System Gates, 108 Kbits RAM, 1 Kbit FlashROM, 2 PLLs, 208-Pin PQFP, Industrial Grade; Published: 16-Dec-2005; LatestRevisionDate: 08-Sep-2006; LatestRevisionNote: 3D bitmap corrected.; DatasheetVersion: ver1.1, Feb-2009; PackageVersion: v11.0, Feb-2009; PackageReference: PQ208; Publisher: Altium Limited; PackageDescription: 208-Pin Plastic Quad Flat Pack (PQ208); Code_JEDEC: MS-029-FA-1; ComponentLink1Description: Manufacturer Link; ComponentLink1URL: http://www.actel.com/products/pa3/; ComponentLink2Description: Datasheet; ComponentLink2URL: http://www.actel.com/documents/PA3E_DS.pdf; ComponentLink3Description: Packaging Specification; ComponentLink3URL: http://www.actel.com/documents/PckgMechDrwngs.pdf
footprint PQ208_N (Shrink QFP, 208-Leads, Body 28x28mm, Pitch 0.5mm, IPC Medium Density)
footprint PQ208_L (Shrink QFP, 208-Leads, Body 28x28mm, Pitch 0.5mm, IPC High Density)
footprint PQ208_M (Shrink QFP, 208-Leads, Body 28x28mm, Pitch 0.5mm, IPC Low Density)
3D model M7A3PE600-PQ208 (208-Pin Plastic Quad Flat Pack (PQ208))
signal-integrity model A3PE600_PQ208 (ProASIC3E)
part A pins: 177 IO19PPB0V2 (io), 179 IO18PPB0V2 (io), 180 IO19NPB0V2 (io), 181 IO18NPB0V2 (io), 182 IO17PPB0V2 (io), 183 IO16PPB0V2 (io), 184 IO17NPB0V2 (io), 185 IO16NPB0V2 (io), 188 IO15PDB0V2 (io), 189 IO15NDB0V2 (io), 190 IO13PDB0V2 (io), 191 IO13NDB0V2 (io), 192 IO11PSB0V1 (io), 193 IO09PDB0V1 (io), 194 IO09NDB0V1 (io), 196 IO07PDB0V1 (io), 197 IO07NDB0V1 (io), 198 IO05PDB0V0 (io), 199 IO05NDB0V0 (io), 201 GAC1/IO02PDB0V0 (io), 202 GAC0/IO02NDB0V0 (io), 203 GAB1/IO01PDB0V0 (io), 204 GAB0/IO01NDB0V0 (io), 205 GAA1/IO00PDB0V0 (io), 206 GAA0/IO00NDB0V0 (io)
part B pins: 159 GBA1/IO35PDB1V1 (io), 160 GBA0/IO35NDB1V1 (io), 161 GBB1/IO34PDB1V1 (io), 163 GBB0/IO34NDB1V1 (io), 164 GBC1/IO33PDB1V1 (io), 165 GBC0/IO33NDB1V1 (io), 166 IO31PDB1V1 (io), 167 IO31NDB1V1 (io), 168 IO27PDB1V0 (io), 169 IO27NDB1V0 (io), 172 IO23PPB1V0 (io), 173 IO22PSB1V0 (io), 174 IO23NPB1V0 (io), 175 IO21PDB1V0 (io), 176 IO21NDB1V0 (io)
part C pins: 134 GCB0/IO51NDB2V1 (io), 135 GCB1/IO51PDB2V1 (io), 136 GCC1/IO50PSB2V1 (io), 137 IO49NDB2V1 (io), 138 IO49PDB2V1 (io), 139 IO48PSB2V1 (io), 143 IO47NDB2V1 (io), 144 IO47PDB2V1 (io), 145 IO44NDB2V1 (io), 146 IO44PDB2V1 (io), 147 IO43NDB2V0 (io), 148 IO43PDB2V0 (io), 149 IO40NDB2V0 (io), 150 IO40PDB2V0 (io), 151 GBC2/IO38PSB2V0 (io), 152 GBA2/IO36PSB2V0 (io), 153 GBB2/IO37PSB2V0 (io)
part D pins: 112 GDA0/IO67NPB3V1 (io), 113 GDB0/IO66NPB3V1 (io), 114 GDA1/IO67PPB3V1 (io), 115 GDB1/IO66PPB3V1 (io), 116 GDC0/IO65NDB3V1 (io), 117 GDC1/IO65PDB3V1 (io), 118 IO62NDB3V1 (io), 119 IO62PDB3V1 (io), 120 IO58NDB3V0 (io), 121 IO58PDB3V0 (io), 124 GCC2/IO55PSB3V0 (io), 125 GCB2/IO54PSB3V0 (io), 127 IO53NDB3V0 (io), 128 GCA2/IO53PDB3V0 (io), 129 GCA1/IO52PPB3V0 (io), 132 GCA0/IO52NPB3V0 (io)
part E pins: 82 IO80NDB4V1 (io), 83 IO80PDB4V1 (io), 84 IO79NPB4V1 (io), 85 IO78NPB4V1 (io), 86 IO79PPB4V1 (io), 87 IO78PPB4V1 (io), 90 IO76NDB4V1 (io), 91 IO76PDB4V1 (io), 92 IO72NDB4V0 (io), 93 IO72PDB4V0 (io), 94 IO70NDB4V0 (io), 95 GDC2/IO70PDB4V0 (io), 96 IO68NDB4V0 (io), 98 GDA2/IO68PDB4V0 (io), 99 GDB2/IO69PSB4V0 (io)
part F pins: 55 IO101NDB5V2 (io), 56 GEA2/IO101PDB5V2 (io), 57 IO100NDB5V2 (io), 58 GEB2/IO100PDB5V2 (io), 59 IO99NDB5V2 (io), 60 GEC2/IO99PDB5V2 (io), 61 IO98PSB5V2 (io), 63 IO96PSB5V2 (io), 64 IO94NDB5V1 (io), 66 IO94PDB5V1 (io), 67 IO92NDB5V1 (io), 68 IO92PDB5V1 (io), 69 IO88NDB5V0 (io), 70 IO88PDB5V0 (io), 73 IO85NPB5V0 (io), 74 IO84NPB5V0 (io), 75 IO85PPB5V0 (io), 76 IO84PPB5V0 (io), 77 IO83NPB5V0 (io), 78 IO82NPB5V0 (io), 79 IO83PPB5V0 (io), 80 IO82PPB5V0 (io)
part G pins: 26 GFA0/IO118NPB6V1 (io), 28 GFA1/IO118PPB6V1 (io), 30 GFA2/IO117PDB6V1 (io), 31 IO117NDB6V1 (io), 32 GFB2/IO116PPB6V1 (io), 33 GFC2/IO115PPB6V1 (io), 34 IO116NPB6V1 (io), 35 IO115NPB6V1 (io), 37 IO112PDB6V1 (io), 38 IO112NDB6V1 (io), 39 IO108PSB6V0 (io), 42 IO106PDB6V0 (io), 43 IO106NDB6V0 (io), 44 GEC1/IO104PDB6V0 (io), 45 GEC0/IO104NDB6V0 (io), 46 GEB1/IO103PPB6V0 (io), 47 GEA1/IO102PPB6V0 (io), 48 GEB0/IO103NPB6V0 (io), 49 GEA0/IO102NPB6V0 (io)
part H pins: 4 GAB2/IO133PSB7V1 (io), 5 GAA2/IO134PDB7V1 (io), 6 IO134NDB7V1 (io), 7 GAC2/IO132PDB7V1 (io), 8 IO132NDB7V1 (io), 9 IO130PDB7V1 (io), 10 IO130NDB7V1 (io), 11 IO127PDB7V1 (io), 12 IO127NDB7V1 (io), 13 IO126PDB7V0 (io), 14 IO126NDB7V0 (io), 15 IO124PSB7V0 (io), 19 IO122PPB7V0 (io), 20 IO121PSB7V0 (io), 21 IO122NPB7V0 (io), 22 GFC1/IO120PSB7V0 (io), 23 GFB1/IO119PDB7V0 (io), 24 GFB0/IO119NDB7V0 (io)
part I pins: 101 TCK (in), 102 TDI (in), 103 TMS (in), 108 TDO (out), 109 ~{TRST} (in), 126 NC
part J pins: 3 VMV7 (power), 16 VCC (power), 18 VCCIB7 (power), 25 VCOMPLF (power), 27 VCCPLF (power), 36 VCC (power), 40 VCCIB6 (power), 50 VMV6 (power), 53 VMV5 (power), 62 VCCIB5 (power), 71 VCC (power), 72 VCCIB5 (power), 88 VCC (power), 89 VCCIB4 (power), 104 VMV4 (power), 106 VPUMP (power), 110 VJTAG (power), 111 VMV3 (power), 123 VCCIB3 (power), 131 VCCPLC (power), 133 VCOMPLC (power), 140 VCCIB2 (power), 142 VCC (power), 154 VMV2 (power), 157 VMV1 (power), 170 VCCIB1 (power), 171 VCC (power), 186 VCCIB0 (power), 187 VCC (power), 200 VCCIB0 (power), 208 VMV0 (power)
part K pins: 1 GND (power), 2 GNDQ (power), 17 GND (power), 29 GND (power), 41 GND (power), 51 GNDQ (power), 52 GND (power), 54 GNDQ (power), 65 GND (power), 81 GND (power), 97 GND (power), 100 GNDQ (power), 105 GND (power), 107 GNDQ (power), 122 GND (power), 130 GND (power), 141 GND (power), 155 GNDQ (power), 156 GND (power), 158 GNDQ (power), 162 GND (power), 178 GND (power), 195 GND (power), 207 GNDQ (power)
part A text: BANK 0
part B text: BANK 1
part C text: BANK 2
part D text: BANK 3
part E text: BANK 4
part F text: BANK 5
part G text: BANK 6
part H text: BANK 7

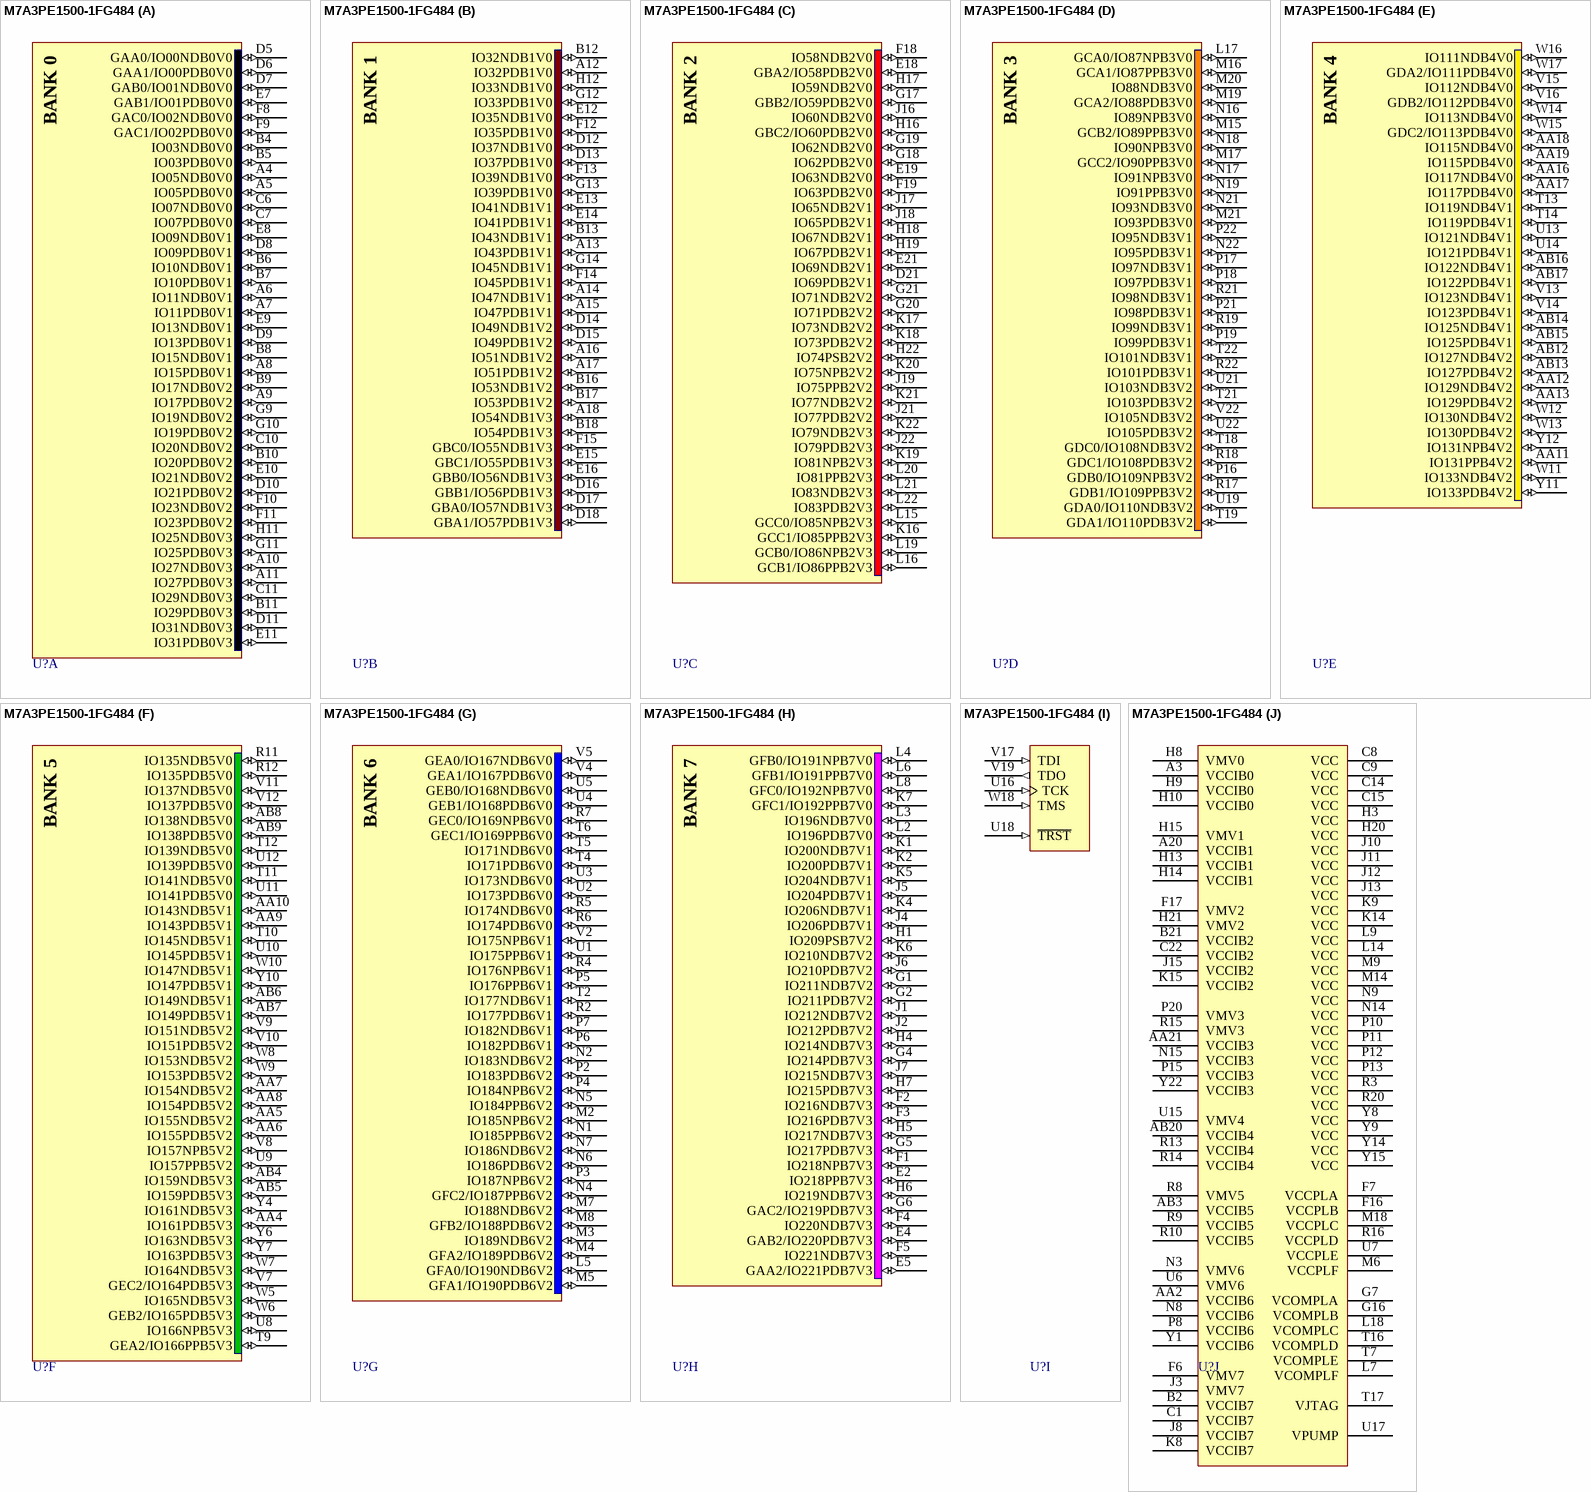
[diagram p159: symbol M7A3PE1500-1FG484]

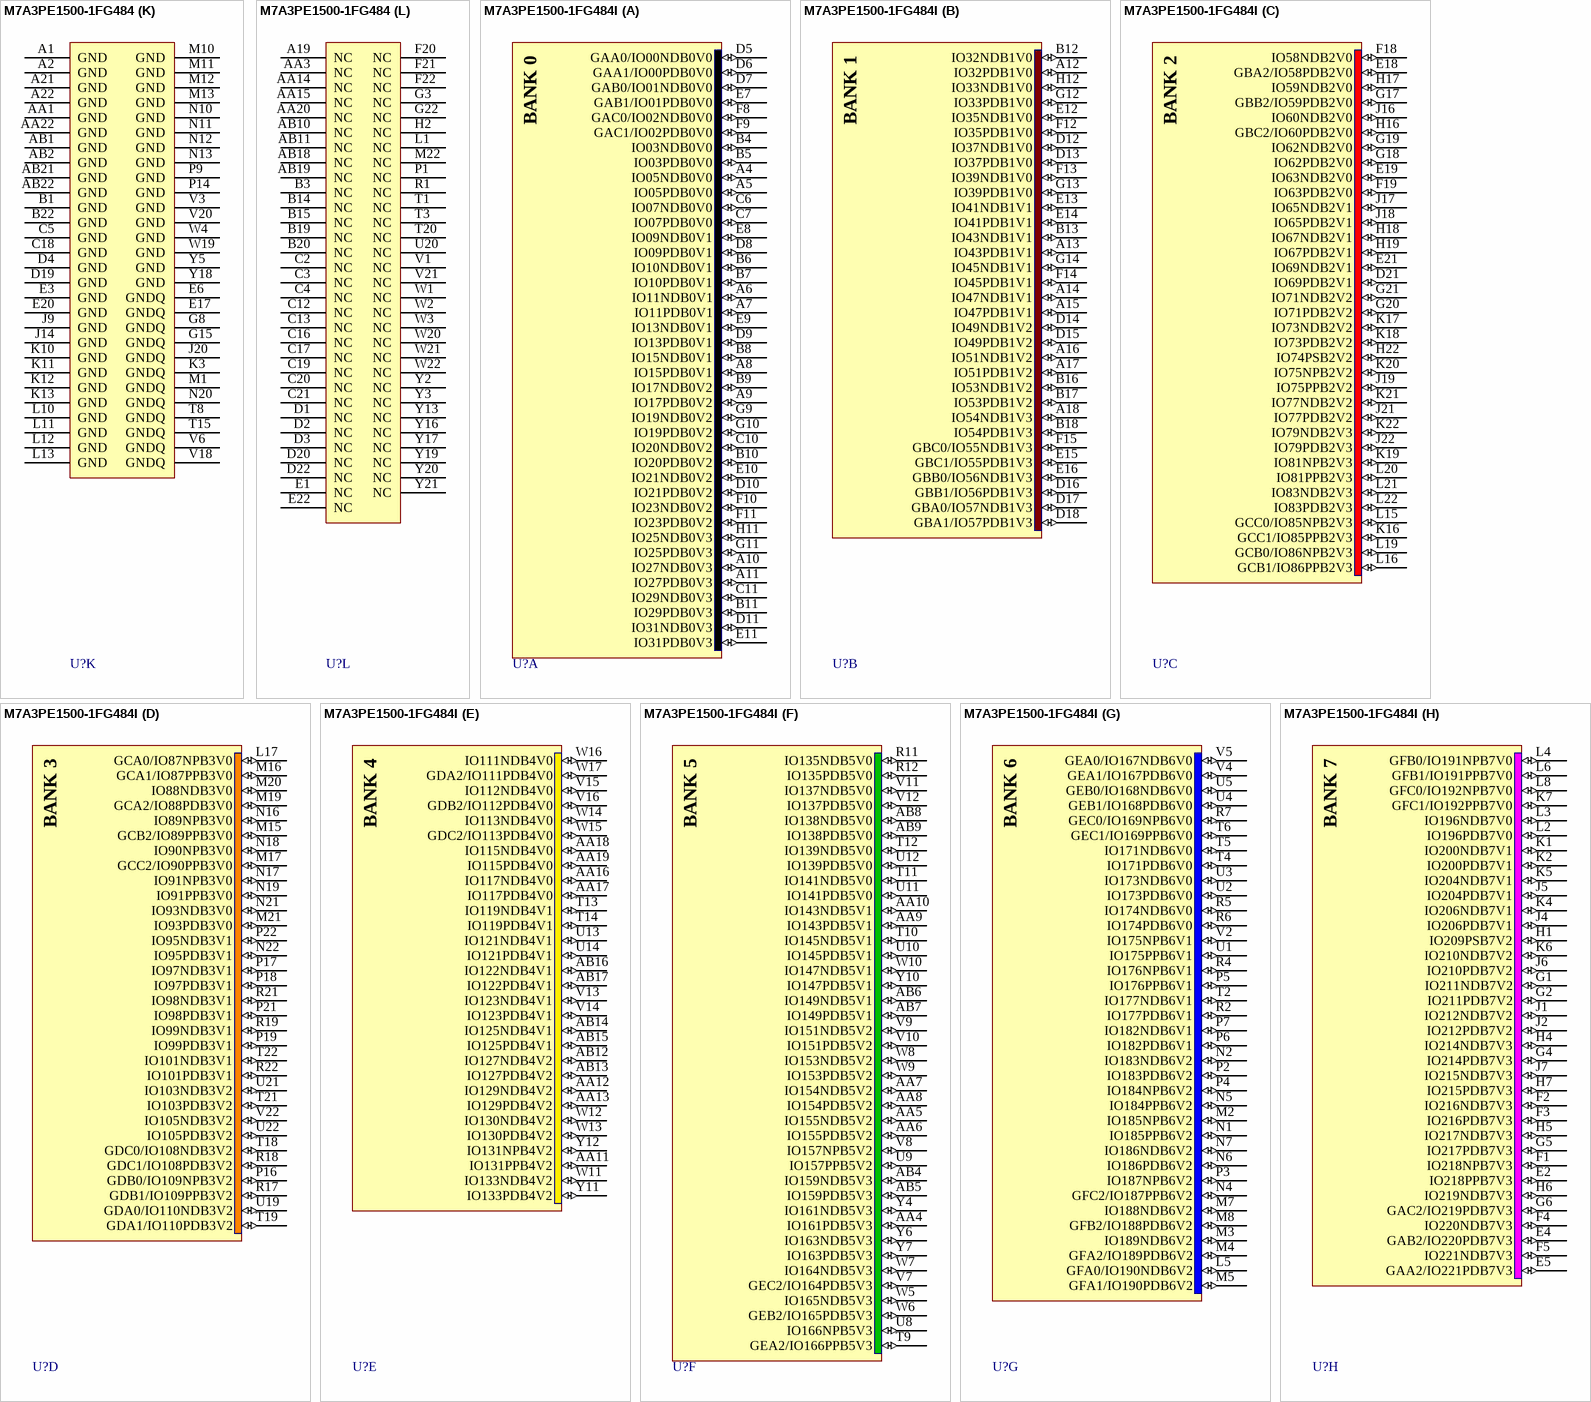
[diagram p160: symbols M7A3PE1500-1FG484 to M7A3PE1500-1FG484I]

## M7A3PE1500-1FG484
designator U?
M7-Ready ProASIC3E Flash Family FPGA, 280 User IOs, 1.5M System Gates, 270 Kbits RAM, 1 Kbit FlashROM, 6 PLLs, 484-Ball FBGA, Commercial Grade; Published: 14-May-2007; DatasheetVersion: ver1.1, Feb-2009; PackageVersion: v11.0, Feb-2009; PackageReference: FG484; Publisher: Altium Limited; PackageDescription: 484-Ball Fine Pitch Plastic Ball Grid Array (FG484) - Fully Populated; Code_JEDEC: MS-034-AAJ-1; Code_IPC: BGA100P22X22-484; ComponentLink1Description: Manufacturer Link; ComponentLink1URL: http://www.actel.com/products/pa3/; ComponentLink2Description: Datasheet; ComponentLink2URL: http://www.actel.com/documents/PA3E_DS.pdf; ComponentLink3Description: Packaging Specification; ComponentLink3URL: http://www.actel.com/documents/PckgMechDrwngs.pdf
footprint FG484 (BGA, 484-Leads, Body 23x23mm, Pitch 1mm)
3D model M7A3PE1500-FG484 (484-Ball Fine Pitch Plastic Ball Grid Array (FG484) - Fully Populated)
signal-integrity model M7A3PE1500_FG484 (ProASIC3E)
part A pins: A4 IO05NDB0V0 (io), A5 IO05PDB0V0 (io), A6 IO11NDB0V1 (io), A7 IO11PDB0V1 (io), A8 IO15PDB0V1 (io), A9 IO17PDB0V2 (io), A10 IO27NDB0V3 (io), A11 IO27PDB0V3 (io), B4 IO03NDB0V0 (io), B5 IO03PDB0V0 (io), B6 IO10NDB0V1 (io), B7 IO10PDB0V1 (io), B8 IO15NDB0V1 (io), B9 IO17NDB0V2 (io), B10 IO20PDB0V2 (io), B11 IO29PDB0V3 (io), C6 IO07NDB0V0 (io), C7 IO07PDB0V0 (io), C10 IO20NDB0V2 (io), C11 IO29NDB0V3 (io), D5 GAA0/IO00NDB0V0 (io), D6 GAA1/IO00PDB0V0 (io), D7 GAB0/IO01NDB0V0 (io), D8 IO09PDB0V1 (io), D9 IO13PDB0V1 (io), D10 IO21PDB0V2 (io), D11 IO31NDB0V3 (io), E7 GAB1/IO01PDB0V0 (io), E8 IO09NDB0V1 (io), E9 IO13NDB0V1 (io), E10 IO21NDB0V2 (io), E11 IO31PDB0V3 (io), F8 GAC0/IO02NDB0V0 (io), F9 GAC1/IO02PDB0V0 (io), F10 IO23NDB0V2 (io), F11 IO23PDB0V2 (io), G9 IO19NDB0V2 (io), G10 IO19PDB0V2 (io), G11 IO25PDB0V3 (io), H11 IO25NDB0V3 (io)
part B pins: A12 IO32PDB1V0 (io), A13 IO43PDB1V1 (io), A14 IO47NDB1V1 (io), A15 IO47PDB1V1 (io), A16 IO51NDB1V2 (io), A17 IO51PDB1V2 (io), A18 IO54NDB1V3 (io), B12 IO32NDB1V0 (io), B13 IO43NDB1V1 (io), B16 IO53NDB1V2 (io), B17 IO53PDB1V2 (io), B18 IO54PDB1V3 (io), D12 IO37NDB1V0 (io), D13 IO37PDB1V0 (io), D14 IO49NDB1V2 (io), D15 IO49PDB1V2 (io), D16 GBB1/IO56PDB1V3 (io), D17 GBA0/IO57NDB1V3 (io), D18 GBA1/IO57PDB1V3 (io), E12 IO35NDB1V0 (io), E13 IO41NDB1V1 (io), E14 IO41PDB1V1 (io), E15 GBC1/IO55PDB1V3 (io), E16 GBB0/IO56NDB1V3 (io), F12 IO35PDB1V0 (io), F13 IO39NDB1V0 (io), F14 IO45PDB1V1 (io), F15 GBC0/IO55NDB1V3 (io), G12 IO33PDB1V0 (io), G13 IO39PDB1V0 (io), G14 IO45NDB1V1 (io), H12 IO33NDB1V0 (io)
part C pins: D21 IO69PDB2V1 (io), E18 GBA2/IO58PDB2V0 (io), E19 IO63NDB2V0 (io), E21 IO69NDB2V1 (io), F18 IO58NDB2V0 (io), F19 IO63PDB2V0 (io), G17 GBB2/IO59PDB2V0 (io), G18 IO62PDB2V0 (io), G19 IO62NDB2V0 (io), G20 IO71PDB2V2 (io), G21 IO71NDB2V2 (io), H16 GBC2/IO60PDB2V0 (io), H17 IO59NDB2V0 (io), H18 IO67NDB2V1 (io), H19 IO67PDB2V1 (io), H22 IO74PSB2V2 (io), J16 IO60NDB2V0 (io), J17 IO65NDB2V1 (io), J18 IO65PDB2V1 (io), J19 IO75PPB2V2 (io), J21 IO77PDB2V2 (io), J22 IO79PDB2V3 (io), K16 GCC1/IO85PPB2V3 (io), K17 IO73NDB2V2 (io), K18 IO73PDB2V2 (io), K19 IO81NPB2V3 (io), K20 IO75NPB2V2 (io), K21 IO77NDB2V2 (io), K22 IO79NDB2V3 (io), L15 GCC0/IO85NPB2V3 (io), L16 GCB1/IO86PPB2V3 (io), L19 GCB0/IO86NPB2V3 (io), L20 IO81PPB2V3 (io), L21 IO83NDB2V3 (io), L22 IO83PDB2V3 (io)
part D pins: L17 GCA0/IO87NPB3V0 (io), M15 GCB2/IO89PPB3V0 (io), M16 GCA1/IO87PPB3V0 (io), M17 GCC2/IO90PPB3V0 (io), M19 GCA2/IO88PDB3V0 (io), M20 IO88NDB3V0 (io), M21 IO93PDB3V0 (io), N16 IO89NPB3V0 (io), N17 IO91NPB3V0 (io), N18 IO90NPB3V0 (io), N19 IO91PPB3V0 (io), N21 IO93NDB3V0 (io), N22 IO95PDB3V1 (io), P16 GDB0/IO109NPB3V2 (io), P17 IO97NDB3V1 (io), P18 IO97PDB3V1 (io), P19 IO99PDB3V1 (io), P21 IO98PDB3V1 (io), P22 IO95NDB3V1 (io), R17 GDB1/IO109PPB3V2 (io), R18 GDC1/IO108PDB3V2 (io), R19 IO99NDB3V1 (io), R21 IO98NDB3V1 (io), R22 IO101PDB3V1 (io), T18 GDC0/IO108NDB3V2 (io), T19 GDA1/IO110PDB3V2 (io), T21 IO103PDB3V2 (io), T22 IO101NDB3V1 (io), U19 GDA0/IO110NDB3V2 (io), U21 IO103NDB3V2 (io), U22 IO105PDB3V2 (io), V22 IO105NDB3V2 (io)
part E pins: AA11 IO131PPB4V2 (io), AA12 IO129NDB4V2 (io), AA13 IO129PDB4V2 (io), AA16 IO117NDB4V0 (io), AA17 IO117PDB4V0 (io), AA18 IO115NDB4V0 (io), AA19 IO115PDB4V0 (io), AB12 IO127NDB4V2 (io), AB13 IO127PDB4V2 (io), AB14 IO125NDB4V1 (io), AB15 IO125PDB4V1 (io), AB16 IO122NDB4V1 (io), AB17 IO122PDB4V1 (io), T13 IO119NDB4V1 (io), T14 IO119PDB4V1 (io), U13 IO121NDB4V1 (io), U14 IO121PDB4V1 (io), V13 IO123NDB4V1 (io), V14 IO123PDB4V1 (io), V15 IO112NDB4V0 (io), V16 GDB2/IO112PDB4V0 (io), W11 IO133NDB4V2 (io), W12 IO130NDB4V2 (io), W13 IO130PDB4V2 (io), W14 IO113NDB4V0 (io), W15 GDC2/IO113PDB4V0 (io), W16 IO111NDB4V0 (io), W17 GDA2/IO111PDB4V0 (io), Y11 IO133PDB4V2 (io), Y12 IO131NPB4V2 (io)
part F pins: AA4 IO161PDB5V3 (io), AA5 IO155NDB5V2 (io), AA6 IO155PDB5V2 (io), AA7 IO154NDB5V2 (io), AA8 IO154PDB5V2 (io), AA9 IO143PDB5V1 (io), AA10 IO143NDB5V1 (io), AB4 IO159NDB5V3 (io), AB5 IO159PDB5V3 (io), AB6 IO149NDB5V1 (io), AB7 IO149PDB5V1 (io), AB8 IO138NDB5V0 (io), AB9 IO138PDB5V0 (io), R11 IO135NDB5V0 (io), R12 IO135PDB5V0 (io), T9 GEA2/IO166PPB5V3 (io), T10 IO145NDB5V1 (io), T11 IO141NDB5V0 (io), T12 IO139NDB5V0 (io), U8 IO166NPB5V3 (io), U9 IO157PPB5V2 (io), U10 IO145PDB5V1 (io), U11 IO141PDB5V0 (io), U12 IO139PDB5V0 (io), V7 GEC2/IO164PDB5V3 (io), V8 IO157NPB5V2 (io), V9 IO151NDB5V2 (io), V10 IO151PDB5V2 (io), V11 IO137NDB5V0 (io), V12 IO137PDB5V0 (io), W5 IO165NDB5V3 (io), W6 GEB2/IO165PDB5V3 (io), W7 IO164NDB5V3 (io), W8 IO153NDB5V2 (io), W9 IO153PDB5V2 (io), W10 IO147NDB5V1 (io), Y4 IO161NDB5V3 (io), Y6 IO163NDB5V3 (io), Y7 IO163PDB5V3 (io), Y10 IO147PDB5V1 (io)
part G pins: L5 GFA0/IO190NDB6V2 (io), M2 IO185NPB6V2 (io), M3 IO189NDB6V2 (io), M4 GFA2/IO189PDB6V2 (io), M5 GFA1/IO190PDB6V2 (io), M7 IO188NDB6V2 (io), M8 GFB2/IO188PDB6V2 (io), N1 IO185PPB6V2 (io), N2 IO183NDB6V2 (io), N4 GFC2/IO187PPB6V2 (io), N5 IO184PPB6V2 (io), N6 IO186PDB6V2 (io), N7 IO186NDB6V2 (io), P2 IO183PDB6V2 (io), P3 IO187NPB6V2 (io), P4 IO184NPB6V2 (io), P5 IO176PPB6V1 (io), P6 IO182PDB6V1 (io), P7 IO182NDB6V1 (io), R2 IO177PDB6V1 (io), R4 IO176NPB6V1 (io), R5 IO174NDB6V0 (io), R6 IO174PDB6V0 (io), R7 GEC0/IO169NPB6V0 (io), T2 IO177NDB6V1 (io), T4 IO171PDB6V0 (io), T5 IO171NDB6V0 (io), T6 GEC1/IO169PPB6V0 (io), U1 IO175PPB6V1 (io), U2 IO173PDB6V0 (io), U3 IO173NDB6V0 (io), U4 GEB1/IO168PDB6V0 (io), U5 GEB0/IO168NDB6V0 (io), V2 IO175NPB6V1 (io), V4 GEA1/IO167PDB6V0 (io), V5 GEA0/IO167NDB6V0 (io)
part H pins: E2 IO218PPB7V3 (io), E4 GAB2/IO220PDB7V3 (io), E5 GAA2/IO221PDB7V3 (io), F1 IO218NPB7V3 (io), F2 IO216NDB7V3 (io), F3 IO216PDB7V3 (io), F4 IO220NDB7V3 (io), F5 IO221NDB7V3 (io), G1 IO211NDB7V2 (io), G2 IO211PDB7V2 (io), G4 IO214PDB7V3 (io), G5 IO217PDB7V3 (io), G6 GAC2/IO219PDB7V3 (io), H1 IO209PSB7V2 (io), H4 IO214NDB7V3 (io), H5 IO217NDB7V3 (io), H6 IO219NDB7V3 (io), H7 IO215PDB7V3 (io), J1 IO212NDB7V2 (io), J2 IO212PDB7V2 (io), J4 IO206PDB7V1 (io), J5 IO204PDB7V1 (io), J6 IO210PDB7V2 (io), J7 IO215NDB7V3 (io), K1 IO200NDB7V1 (io), K2 IO200PDB7V1 (io), K4 IO206NDB7V1 (io), K5 IO204NDB7V1 (io), K6 IO210NDB7V2 (io), K7 GFC1/IO192PPB7V0 (io), L2 IO196PDB7V0 (io), L3 IO196NDB7V0 (io), L4 GFB0/IO191NPB7V0 (io), L6 GFB1/IO191PPB7V0 (io), L8 GFC0/IO192NPB7V0 (io)
part I pins: U16 TCK (in), U18 ~{TRST} (in), V17 TDI (in), V19 TDO (out), W18 TMS (in)
part J pins: A3 VCCIB0 (power), A20 VCCIB1 (power), AA2 VCCIB6 (power), AA21 VCCIB3 (power), AB3 VCCIB5 (power), AB20 VCCIB4 (power), B2 VCCIB7 (power), B21 VCCIB2 (power), C1 VCCIB7 (power), C8 VCC (power), C9 VCC (power), C14 VCC (power), C15 VCC (power), C22 VCCIB2 (power), F6 VMV7 (power), F7 VCCPLA (power), F16 VCCPLB (power), F17 VMV2 (power), G7 VCOMPLA (power), G16 VCOMPLB (power), H3 VCC (power), H8 VMV0 (power), H9 VCCIB0 (power), H10 VCCIB0 (power), H13 VCCIB1 (power), H14 VCCIB1 (power), H15 VMV1 (power), H20 VCC (power), H21 VMV2 (power), J3 VMV7 (power), J8 VCCIB7 (power), J10 VCC (power), J11 VCC (power), J12 VCC (power), J13 VCC (power), J15 VCCIB2 (power), K8 VCCIB7 (power), K9 VCC (power), K14 VCC (power), K15 VCCIB2 (power), L7 VCOMPLF (power), L9 VCC (power), L14 VCC (power), L18 VCOMPLC (power), M6 VCCPLF (power), M9 VCC (power), M14 VCC (power), M18 VCCPLC (power), N3 VMV6 (power), N8 VCCIB6 (power), N9 VCC (power), N14 VCC (power), N15 VCCIB3 (power), P8 VCCIB6 (power), P10 VCC (power), P11 VCC (power), P12 VCC (power), P13 VCC (power), P15 VCCIB3 (power), P20 VMV3 (power), R3 VCC (power), R8 VMV5 (power), R9 VCCIB5 (power), R10 VCCIB5 (power), R13 VCCIB4 (power), R14 VCCIB4 (power), R15 VMV3 (power), R16 VCCPLD (power), R20 VCC (power), T7 VCOMPLE (power), T16 VCOMPLD (power), T17 VJTAG (power), U6 VMV6 (power), U7 VCCPLE (power), U15 VMV4 (power), U17 VPUMP (power), Y1 VCCIB6 (power), Y8 VCC (power), Y9 VCC (power), Y14 VCC (power), Y15 VCC (power), Y22 VCCIB3 (power)
part K pins: A1 GND (power), A2 GND (power), A21 GND (power), A22 GND (power), AA1 GND (power), AA22 GND (power), AB1 GND (power), AB2 GND (power), AB21 GND (power), AB22 GND (power), B1 GND (power), B22 GND (power), C5 GND (power), C18 GND (power), D4 GND (power), D19 GND (power), E3 GND (power), E6 GNDQ (power), E17 GNDQ (power), E20 GND (power), G8 GNDQ (power), G15 GNDQ (power), J9 GND (power), J14 GND (power), J20 GNDQ (power), K3 GNDQ (power), K10 GND (power), K11 GND (power), K12 GND (power), K13 GND (power), L10 GND (power), L11 GND (power), L12 GND (power), L13 GND (power), M1 GNDQ (power), M10 GND (power), M11 GND (power), M12 GND (power), M13 GND (power), N10 GND (power), N11 GND (power), N12 GND (power), N13 GND (power), N20 GNDQ (power), P9 GND (power), P14 GND (power), T8 GNDQ (power), T15 GNDQ (power), V3 GND (power), V6 GNDQ (power), V18 GNDQ (power), V20 GND (power), W4 GND (power), W19 GND (power), Y5 GND (power), Y18 GND (power)
part L pins: A19 NC, AA3 NC, AA14 NC, AA15 NC, AA20 NC, AB10 NC, AB11 NC, AB18 NC, AB19 NC, B3 NC, B14 NC, B15 NC, B19 NC, B20 NC, C2 NC, C3 NC, C4 NC, C12 NC, C13 NC, C16 NC, C17 NC, C19 NC, C20 NC, C21 NC, D1 NC, D2 NC, D3 NC, D20 NC, D22 NC, E1 NC, E22 NC, F20 NC, F21 NC, F22 NC, G3 NC, G22 NC, H2 NC, L1 NC, M22 NC, P1 NC, R1 NC, T1 NC, T3 NC, T20 NC, U20 NC, V1 NC, V21 NC, W1 NC, W2 NC, W3 NC, W20 NC, W21 NC, W22 NC, Y2 NC, Y3 NC, Y13 NC, Y16 NC, Y17 NC, Y19 NC, Y20 NC, Y21 NC
part A text: BANK 0
part B text: BANK 1
part C text: BANK 2
part D text: BANK 3
part E text: BANK 4
part F text: BANK 5
part G text: BANK 6
part H text: BANK 7

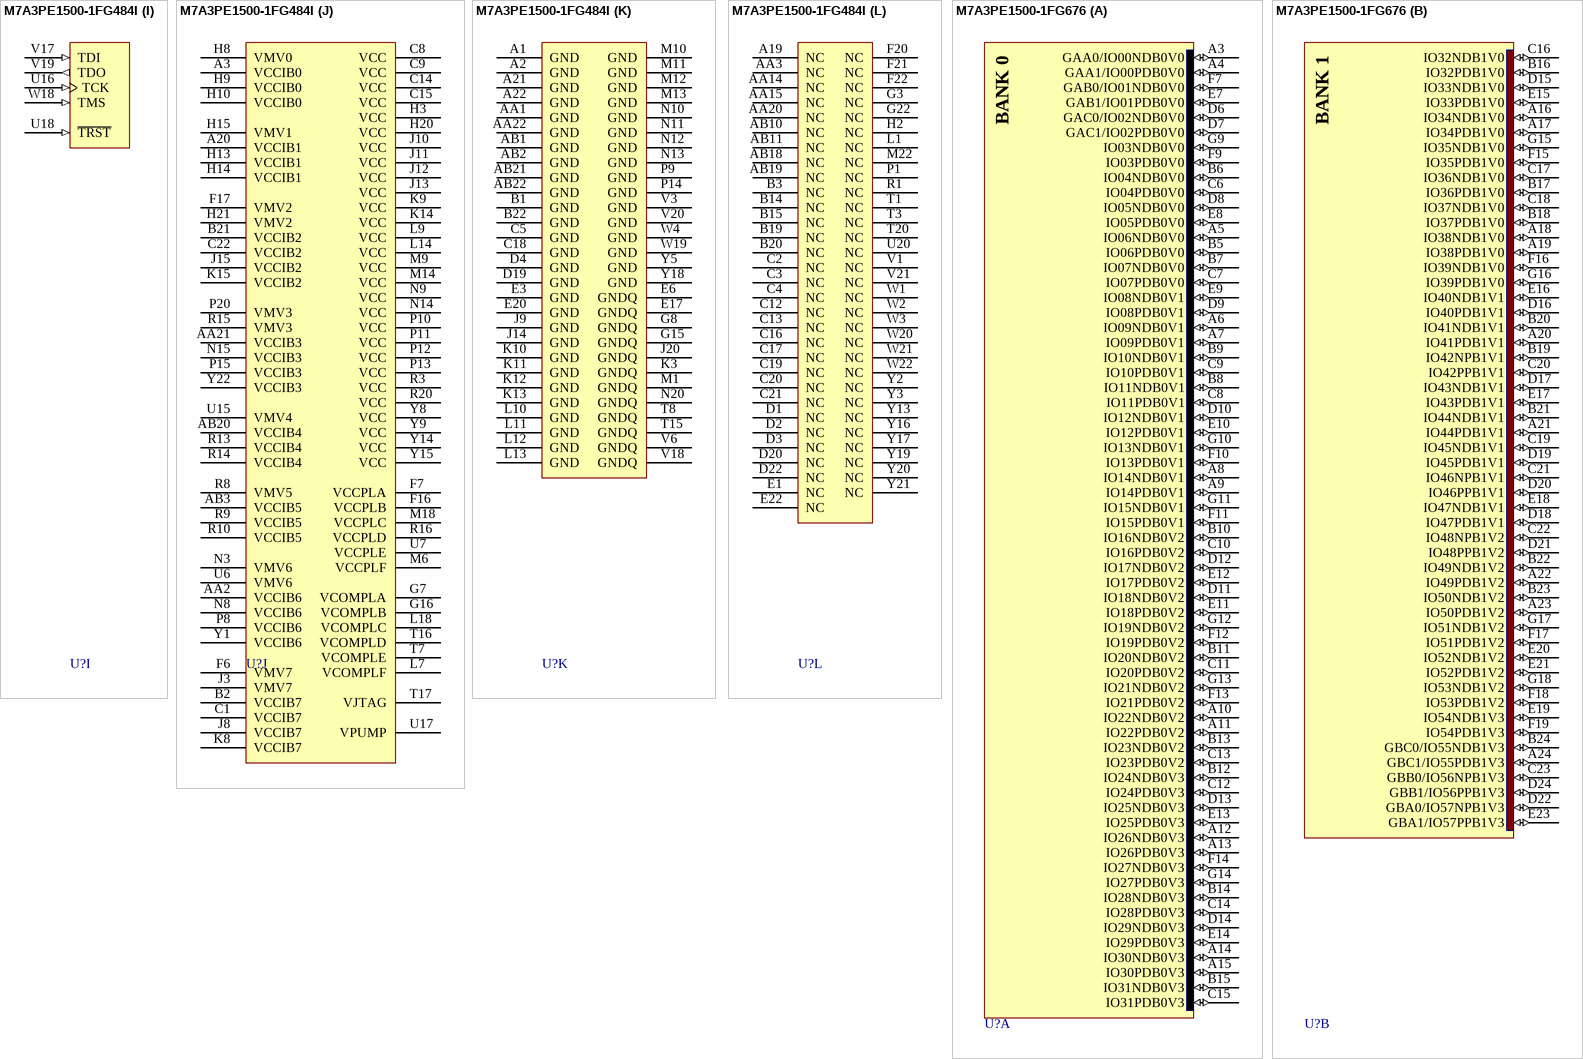
[diagram p161: symbols M7A3PE1500-1FG484I to M7A3PE1500-1FG676]

## M7A3PE1500-1FG484I
designator U?
M7-Ready ProASIC3E Flash Family FPGA, 280 User IOs, 1.5M System Gates, 270 Kbits RAM, 1 Kbit FlashROM, 6 PLLs, 484-Ball FBGA, Industrial Grade; Published: 14-May-2007; DatasheetVersion: ver1.1, Feb-2009; PackageVersion: v11.0, Feb-2009; PackageReference: FG484; Publisher: Altium Limited; PackageDescription: 484-Ball Fine Pitch Plastic Ball Grid Array (FG484) - Fully Populated; Code_JEDEC: MS-034-AAJ-1; Code_IPC: BGA100P22X22-484; ComponentLink1Description: Manufacturer Link; ComponentLink1URL: http://www.actel.com/products/pa3/; ComponentLink2Description: Datasheet; ComponentLink2URL: http://www.actel.com/documents/PA3E_DS.pdf; ComponentLink3Description: Packaging Specification; ComponentLink3URL: http://www.actel.com/documents/PckgMechDrwngs.pdf
footprint FG484 (BGA, 484-Leads, Body 23x23mm, Pitch 1mm)
3D model M7A3PE1500-FG484 (484-Ball Fine Pitch Plastic Ball Grid Array (FG484) - Fully Populated)
signal-integrity model M7A3PE1500_FG484 (ProASIC3E)
part A pins: A4 IO05NDB0V0 (io), A5 IO05PDB0V0 (io), A6 IO11NDB0V1 (io), A7 IO11PDB0V1 (io), A8 IO15PDB0V1 (io), A9 IO17PDB0V2 (io), A10 IO27NDB0V3 (io), A11 IO27PDB0V3 (io), B4 IO03NDB0V0 (io), B5 IO03PDB0V0 (io), B6 IO10NDB0V1 (io), B7 IO10PDB0V1 (io), B8 IO15NDB0V1 (io), B9 IO17NDB0V2 (io), B10 IO20PDB0V2 (io), B11 IO29PDB0V3 (io), C6 IO07NDB0V0 (io), C7 IO07PDB0V0 (io), C10 IO20NDB0V2 (io), C11 IO29NDB0V3 (io), D5 GAA0/IO00NDB0V0 (io), D6 GAA1/IO00PDB0V0 (io), D7 GAB0/IO01NDB0V0 (io), D8 IO09PDB0V1 (io), D9 IO13PDB0V1 (io), D10 IO21PDB0V2 (io), D11 IO31NDB0V3 (io), E7 GAB1/IO01PDB0V0 (io), E8 IO09NDB0V1 (io), E9 IO13NDB0V1 (io), E10 IO21NDB0V2 (io), E11 IO31PDB0V3 (io), F8 GAC0/IO02NDB0V0 (io), F9 GAC1/IO02PDB0V0 (io), F10 IO23NDB0V2 (io), F11 IO23PDB0V2 (io), G9 IO19NDB0V2 (io), G10 IO19PDB0V2 (io), G11 IO25PDB0V3 (io), H11 IO25NDB0V3 (io)
part B pins: A12 IO32PDB1V0 (io), A13 IO43PDB1V1 (io), A14 IO47NDB1V1 (io), A15 IO47PDB1V1 (io), A16 IO51NDB1V2 (io), A17 IO51PDB1V2 (io), A18 IO54NDB1V3 (io), B12 IO32NDB1V0 (io), B13 IO43NDB1V1 (io), B16 IO53NDB1V2 (io), B17 IO53PDB1V2 (io), B18 IO54PDB1V3 (io), D12 IO37NDB1V0 (io), D13 IO37PDB1V0 (io), D14 IO49NDB1V2 (io), D15 IO49PDB1V2 (io), D16 GBB1/IO56PDB1V3 (io), D17 GBA0/IO57NDB1V3 (io), D18 GBA1/IO57PDB1V3 (io), E12 IO35NDB1V0 (io), E13 IO41NDB1V1 (io), E14 IO41PDB1V1 (io), E15 GBC1/IO55PDB1V3 (io), E16 GBB0/IO56NDB1V3 (io), F12 IO35PDB1V0 (io), F13 IO39NDB1V0 (io), F14 IO45PDB1V1 (io), F15 GBC0/IO55NDB1V3 (io), G12 IO33PDB1V0 (io), G13 IO39PDB1V0 (io), G14 IO45NDB1V1 (io), H12 IO33NDB1V0 (io)
part C pins: D21 IO69PDB2V1 (io), E18 GBA2/IO58PDB2V0 (io), E19 IO63NDB2V0 (io), E21 IO69NDB2V1 (io), F18 IO58NDB2V0 (io), F19 IO63PDB2V0 (io), G17 GBB2/IO59PDB2V0 (io), G18 IO62PDB2V0 (io), G19 IO62NDB2V0 (io), G20 IO71PDB2V2 (io), G21 IO71NDB2V2 (io), H16 GBC2/IO60PDB2V0 (io), H17 IO59NDB2V0 (io), H18 IO67NDB2V1 (io), H19 IO67PDB2V1 (io), H22 IO74PSB2V2 (io), J16 IO60NDB2V0 (io), J17 IO65NDB2V1 (io), J18 IO65PDB2V1 (io), J19 IO75PPB2V2 (io), J21 IO77PDB2V2 (io), J22 IO79PDB2V3 (io), K16 GCC1/IO85PPB2V3 (io), K17 IO73NDB2V2 (io), K18 IO73PDB2V2 (io), K19 IO81NPB2V3 (io), K20 IO75NPB2V2 (io), K21 IO77NDB2V2 (io), K22 IO79NDB2V3 (io), L15 GCC0/IO85NPB2V3 (io), L16 GCB1/IO86PPB2V3 (io), L19 GCB0/IO86NPB2V3 (io), L20 IO81PPB2V3 (io), L21 IO83NDB2V3 (io), L22 IO83PDB2V3 (io)
part D pins: L17 GCA0/IO87NPB3V0 (io), M15 GCB2/IO89PPB3V0 (io), M16 GCA1/IO87PPB3V0 (io), M17 GCC2/IO90PPB3V0 (io), M19 GCA2/IO88PDB3V0 (io), M20 IO88NDB3V0 (io), M21 IO93PDB3V0 (io), N16 IO89NPB3V0 (io), N17 IO91NPB3V0 (io), N18 IO90NPB3V0 (io), N19 IO91PPB3V0 (io), N21 IO93NDB3V0 (io), N22 IO95PDB3V1 (io), P16 GDB0/IO109NPB3V2 (io), P17 IO97NDB3V1 (io), P18 IO97PDB3V1 (io), P19 IO99PDB3V1 (io), P21 IO98PDB3V1 (io), P22 IO95NDB3V1 (io), R17 GDB1/IO109PPB3V2 (io), R18 GDC1/IO108PDB3V2 (io), R19 IO99NDB3V1 (io), R21 IO98NDB3V1 (io), R22 IO101PDB3V1 (io), T18 GDC0/IO108NDB3V2 (io), T19 GDA1/IO110PDB3V2 (io), T21 IO103PDB3V2 (io), T22 IO101NDB3V1 (io), U19 GDA0/IO110NDB3V2 (io), U21 IO103NDB3V2 (io), U22 IO105PDB3V2 (io), V22 IO105NDB3V2 (io)
part E pins: AA11 IO131PPB4V2 (io), AA12 IO129NDB4V2 (io), AA13 IO129PDB4V2 (io), AA16 IO117NDB4V0 (io), AA17 IO117PDB4V0 (io), AA18 IO115NDB4V0 (io), AA19 IO115PDB4V0 (io), AB12 IO127NDB4V2 (io), AB13 IO127PDB4V2 (io), AB14 IO125NDB4V1 (io), AB15 IO125PDB4V1 (io), AB16 IO122NDB4V1 (io), AB17 IO122PDB4V1 (io), T13 IO119NDB4V1 (io), T14 IO119PDB4V1 (io), U13 IO121NDB4V1 (io), U14 IO121PDB4V1 (io), V13 IO123NDB4V1 (io), V14 IO123PDB4V1 (io), V15 IO112NDB4V0 (io), V16 GDB2/IO112PDB4V0 (io), W11 IO133NDB4V2 (io), W12 IO130NDB4V2 (io), W13 IO130PDB4V2 (io), W14 IO113NDB4V0 (io), W15 GDC2/IO113PDB4V0 (io), W16 IO111NDB4V0 (io), W17 GDA2/IO111PDB4V0 (io), Y11 IO133PDB4V2 (io), Y12 IO131NPB4V2 (io)
part F pins: AA4 IO161PDB5V3 (io), AA5 IO155NDB5V2 (io), AA6 IO155PDB5V2 (io), AA7 IO154NDB5V2 (io), AA8 IO154PDB5V2 (io), AA9 IO143PDB5V1 (io), AA10 IO143NDB5V1 (io), AB4 IO159NDB5V3 (io), AB5 IO159PDB5V3 (io), AB6 IO149NDB5V1 (io), AB7 IO149PDB5V1 (io), AB8 IO138NDB5V0 (io), AB9 IO138PDB5V0 (io), R11 IO135NDB5V0 (io), R12 IO135PDB5V0 (io), T9 GEA2/IO166PPB5V3 (io), T10 IO145NDB5V1 (io), T11 IO141NDB5V0 (io), T12 IO139NDB5V0 (io), U8 IO166NPB5V3 (io), U9 IO157PPB5V2 (io), U10 IO145PDB5V1 (io), U11 IO141PDB5V0 (io), U12 IO139PDB5V0 (io), V7 GEC2/IO164PDB5V3 (io), V8 IO157NPB5V2 (io), V9 IO151NDB5V2 (io), V10 IO151PDB5V2 (io), V11 IO137NDB5V0 (io), V12 IO137PDB5V0 (io), W5 IO165NDB5V3 (io), W6 GEB2/IO165PDB5V3 (io), W7 IO164NDB5V3 (io), W8 IO153NDB5V2 (io), W9 IO153PDB5V2 (io), W10 IO147NDB5V1 (io), Y4 IO161NDB5V3 (io), Y6 IO163NDB5V3 (io), Y7 IO163PDB5V3 (io), Y10 IO147PDB5V1 (io)
part G pins: L5 GFA0/IO190NDB6V2 (io), M2 IO185NPB6V2 (io), M3 IO189NDB6V2 (io), M4 GFA2/IO189PDB6V2 (io), M5 GFA1/IO190PDB6V2 (io), M7 IO188NDB6V2 (io), M8 GFB2/IO188PDB6V2 (io), N1 IO185PPB6V2 (io), N2 IO183NDB6V2 (io), N4 GFC2/IO187PPB6V2 (io), N5 IO184PPB6V2 (io), N6 IO186PDB6V2 (io), N7 IO186NDB6V2 (io), P2 IO183PDB6V2 (io), P3 IO187NPB6V2 (io), P4 IO184NPB6V2 (io), P5 IO176PPB6V1 (io), P6 IO182PDB6V1 (io), P7 IO182NDB6V1 (io), R2 IO177PDB6V1 (io), R4 IO176NPB6V1 (io), R5 IO174NDB6V0 (io), R6 IO174PDB6V0 (io), R7 GEC0/IO169NPB6V0 (io), T2 IO177NDB6V1 (io), T4 IO171PDB6V0 (io), T5 IO171NDB6V0 (io), T6 GEC1/IO169PPB6V0 (io), U1 IO175PPB6V1 (io), U2 IO173PDB6V0 (io), U3 IO173NDB6V0 (io), U4 GEB1/IO168PDB6V0 (io), U5 GEB0/IO168NDB6V0 (io), V2 IO175NPB6V1 (io), V4 GEA1/IO167PDB6V0 (io), V5 GEA0/IO167NDB6V0 (io)
part H pins: E2 IO218PPB7V3 (io), E4 GAB2/IO220PDB7V3 (io), E5 GAA2/IO221PDB7V3 (io), F1 IO218NPB7V3 (io), F2 IO216NDB7V3 (io), F3 IO216PDB7V3 (io), F4 IO220NDB7V3 (io), F5 IO221NDB7V3 (io), G1 IO211NDB7V2 (io), G2 IO211PDB7V2 (io), G4 IO214PDB7V3 (io), G5 IO217PDB7V3 (io), G6 GAC2/IO219PDB7V3 (io), H1 IO209PSB7V2 (io), H4 IO214NDB7V3 (io), H5 IO217NDB7V3 (io), H6 IO219NDB7V3 (io), H7 IO215PDB7V3 (io), J1 IO212NDB7V2 (io), J2 IO212PDB7V2 (io), J4 IO206PDB7V1 (io), J5 IO204PDB7V1 (io), J6 IO210PDB7V2 (io), J7 IO215NDB7V3 (io), K1 IO200NDB7V1 (io), K2 IO200PDB7V1 (io), K4 IO206NDB7V1 (io), K5 IO204NDB7V1 (io), K6 IO210NDB7V2 (io), K7 GFC1/IO192PPB7V0 (io), L2 IO196PDB7V0 (io), L3 IO196NDB7V0 (io), L4 GFB0/IO191NPB7V0 (io), L6 GFB1/IO191PPB7V0 (io), L8 GFC0/IO192NPB7V0 (io)
part I pins: U16 TCK (in), U18 ~{TRST} (in), V17 TDI (in), V19 TDO (out), W18 TMS (in)
part J pins: A3 VCCIB0 (power), A20 VCCIB1 (power), AA2 VCCIB6 (power), AA21 VCCIB3 (power), AB3 VCCIB5 (power), AB20 VCCIB4 (power), B2 VCCIB7 (power), B21 VCCIB2 (power), C1 VCCIB7 (power), C8 VCC (power), C9 VCC (power), C14 VCC (power), C15 VCC (power), C22 VCCIB2 (power), F6 VMV7 (power), F7 VCCPLA (power), F16 VCCPLB (power), F17 VMV2 (power), G7 VCOMPLA (power), G16 VCOMPLB (power), H3 VCC (power), H8 VMV0 (power), H9 VCCIB0 (power), H10 VCCIB0 (power), H13 VCCIB1 (power), H14 VCCIB1 (power), H15 VMV1 (power), H20 VCC (power), H21 VMV2 (power), J3 VMV7 (power), J8 VCCIB7 (power), J10 VCC (power), J11 VCC (power), J12 VCC (power), J13 VCC (power), J15 VCCIB2 (power), K8 VCCIB7 (power), K9 VCC (power), K14 VCC (power), K15 VCCIB2 (power), L7 VCOMPLF (power), L9 VCC (power), L14 VCC (power), L18 VCOMPLC (power), M6 VCCPLF (power), M9 VCC (power), M14 VCC (power), M18 VCCPLC (power), N3 VMV6 (power), N8 VCCIB6 (power), N9 VCC (power), N14 VCC (power), N15 VCCIB3 (power), P8 VCCIB6 (power), P10 VCC (power), P11 VCC (power), P12 VCC (power), P13 VCC (power), P15 VCCIB3 (power), P20 VMV3 (power), R3 VCC (power), R8 VMV5 (power), R9 VCCIB5 (power), R10 VCCIB5 (power), R13 VCCIB4 (power), R14 VCCIB4 (power), R15 VMV3 (power), R16 VCCPLD (power), R20 VCC (power), T7 VCOMPLE (power), T16 VCOMPLD (power), T17 VJTAG (power), U6 VMV6 (power), U7 VCCPLE (power), U15 VMV4 (power), U17 VPUMP (power), Y1 VCCIB6 (power), Y8 VCC (power), Y9 VCC (power), Y14 VCC (power), Y15 VCC (power), Y22 VCCIB3 (power)
part K pins: A1 GND (power), A2 GND (power), A21 GND (power), A22 GND (power), AA1 GND (power), AA22 GND (power), AB1 GND (power), AB2 GND (power), AB21 GND (power), AB22 GND (power), B1 GND (power), B22 GND (power), C5 GND (power), C18 GND (power), D4 GND (power), D19 GND (power), E3 GND (power), E6 GNDQ (power), E17 GNDQ (power), E20 GND (power), G8 GNDQ (power), G15 GNDQ (power), J9 GND (power), J14 GND (power), J20 GNDQ (power), K3 GNDQ (power), K10 GND (power), K11 GND (power), K12 GND (power), K13 GND (power), L10 GND (power), L11 GND (power), L12 GND (power), L13 GND (power), M1 GNDQ (power), M10 GND (power), M11 GND (power), M12 GND (power), M13 GND (power), N10 GND (power), N11 GND (power), N12 GND (power), N13 GND (power), N20 GNDQ (power), P9 GND (power), P14 GND (power), T8 GNDQ (power), T15 GNDQ (power), V3 GND (power), V6 GNDQ (power), V18 GNDQ (power), V20 GND (power), W4 GND (power), W19 GND (power), Y5 GND (power), Y18 GND (power)
part L pins: A19 NC, AA3 NC, AA14 NC, AA15 NC, AA20 NC, AB10 NC, AB11 NC, AB18 NC, AB19 NC, B3 NC, B14 NC, B15 NC, B19 NC, B20 NC, C2 NC, C3 NC, C4 NC, C12 NC, C13 NC, C16 NC, C17 NC, C19 NC, C20 NC, C21 NC, D1 NC, D2 NC, D3 NC, D20 NC, D22 NC, E1 NC, E22 NC, F20 NC, F21 NC, F22 NC, G3 NC, G22 NC, H2 NC, L1 NC, M22 NC, P1 NC, R1 NC, T1 NC, T3 NC, T20 NC, U20 NC, V1 NC, V21 NC, W1 NC, W2 NC, W3 NC, W20 NC, W21 NC, W22 NC, Y2 NC, Y3 NC, Y13 NC, Y16 NC, Y17 NC, Y19 NC, Y20 NC, Y21 NC
part A text: BANK 0
part B text: BANK 1
part C text: BANK 2
part D text: BANK 3
part E text: BANK 4
part F text: BANK 5
part G text: BANK 6
part H text: BANK 7

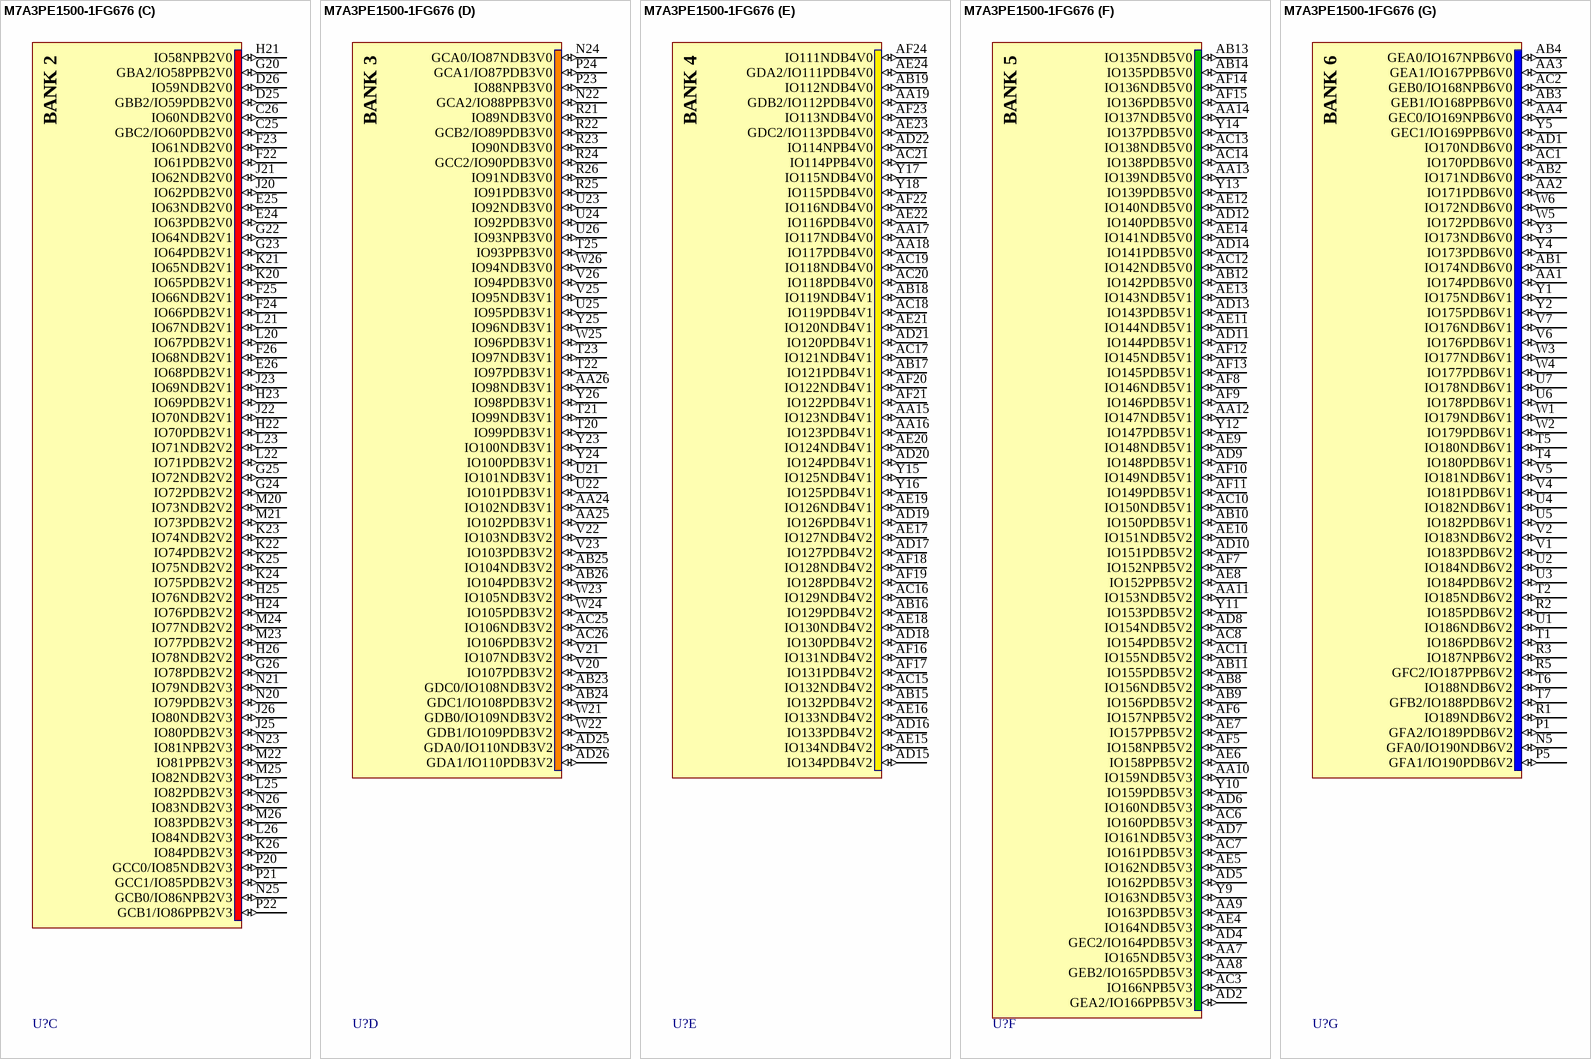
[diagram p162: symbol M7A3PE1500-1FG676]

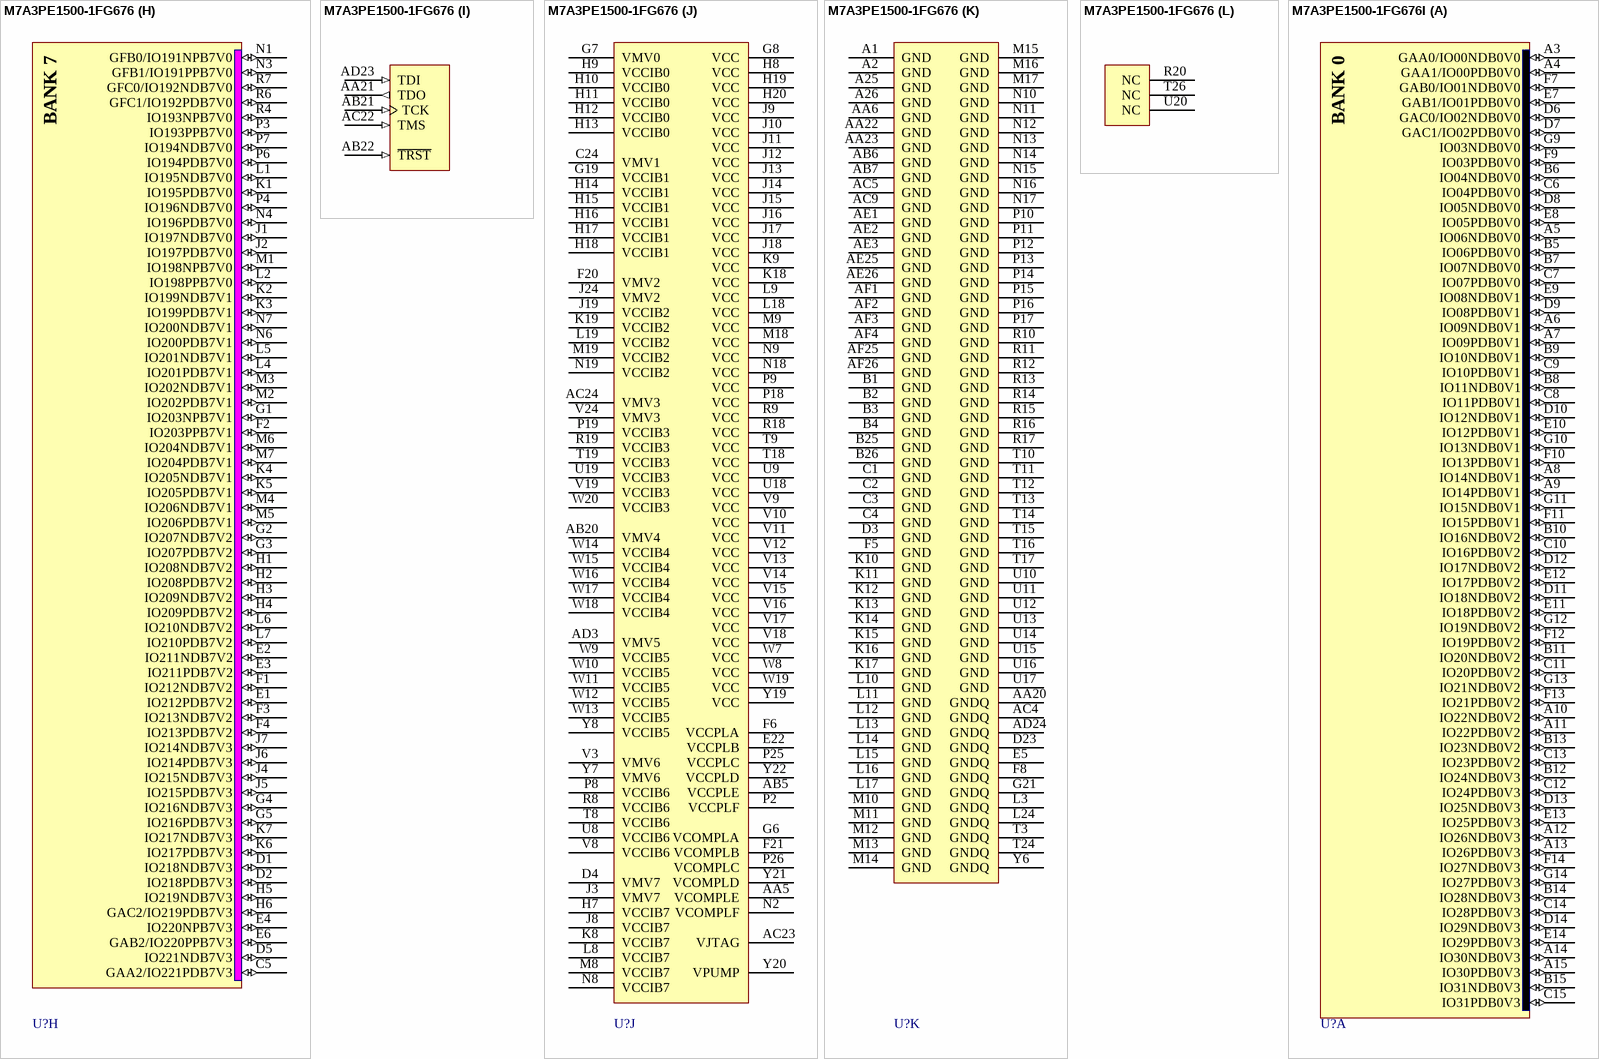
[diagram p163: symbols M7A3PE1500-1FG676 to M7A3PE1500-1FG676I]